# Altium integrated library Renesas Microprocessor SuperH.IntLib: 433 symbols (part 22 of 62)
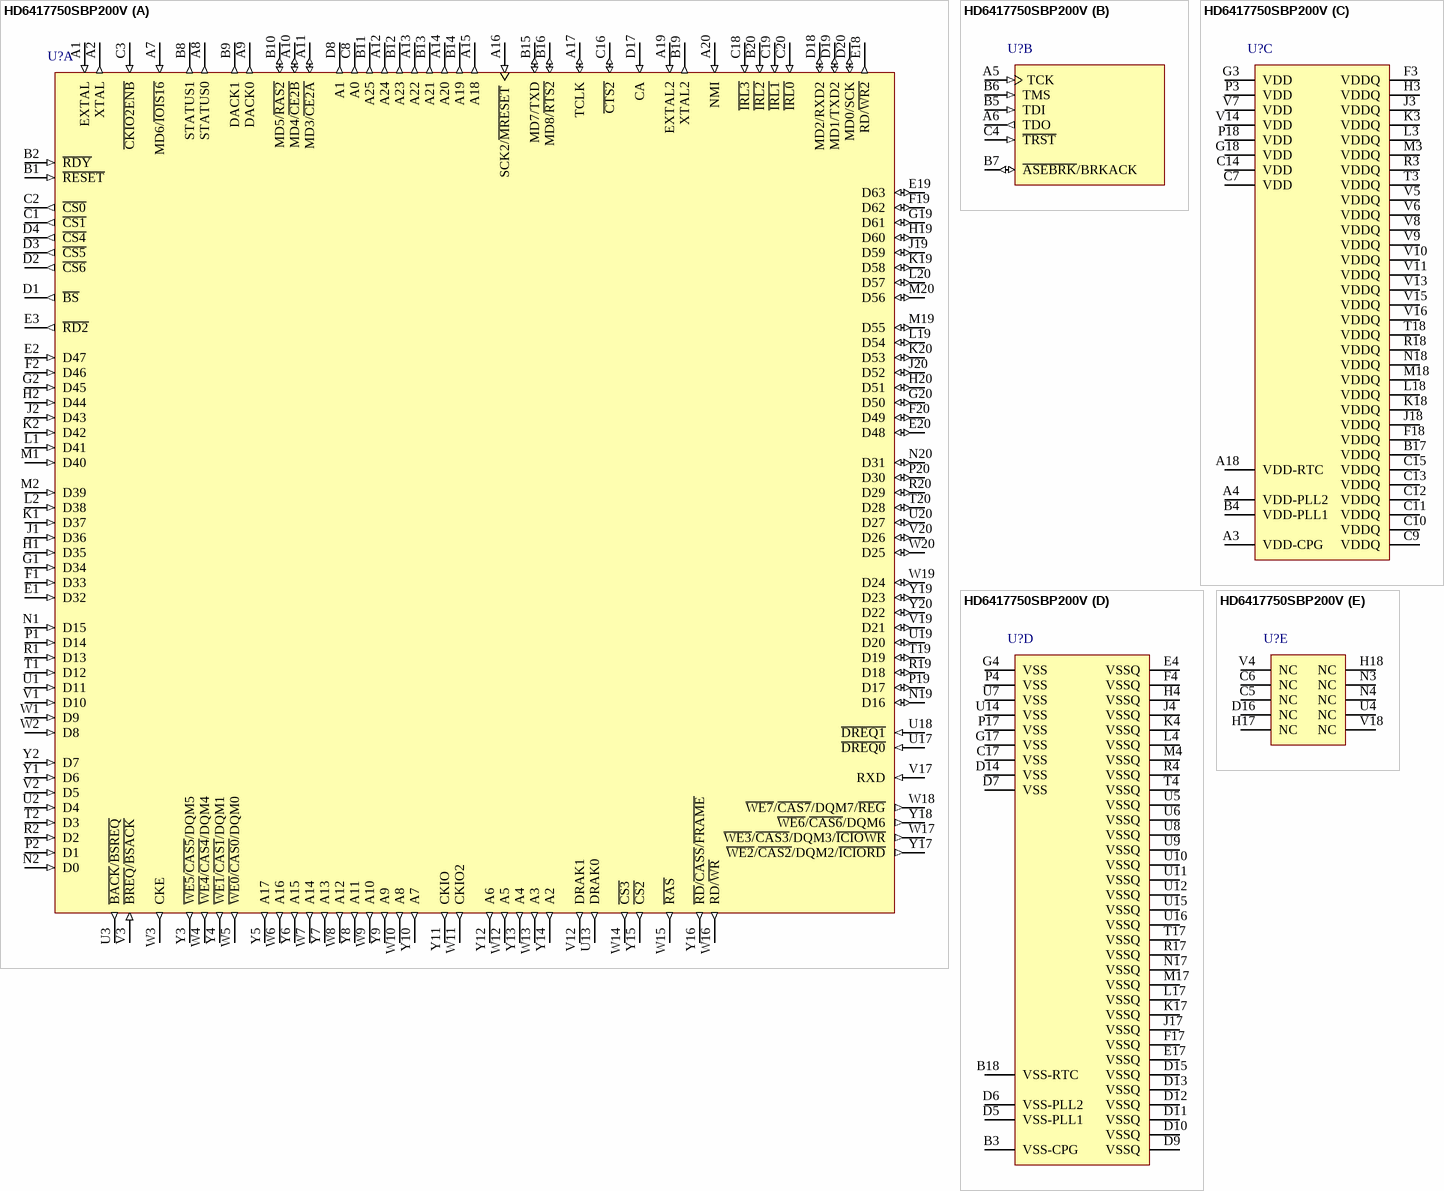
[diagram p295: symbol HD6417750SBP200V]

## HD6417750SBP200V
designator U?
32-Bit RISC Microcomputer, SH7750 Series, SH-4 core, 1.95V 200MHz, 256-pin BGA (Pb-Free), -20 to 75°C; Published: 28-Aug-2009; DatasheetVersion: Rev.7.00, Oct-2008; PackageVersion: Sep-2005; PackageReference: PRBG0256DE-A; Publisher: Altium Limited; PackageDescription: 256-Ball Plastic Ball Grid Array, 27 x 27 mm Body, 1.27 mm Pitch; Supplier 1: Digi-Key; Supplier Part Number 1: HD6417750SBP200V-ND; Code_JEITA: P-BGA256-27x27-1.27; ComponentLink1Description: Manufacturer Link; ComponentLink1URL: http://www.renesas.com/fmwk.jsp?cnt=sh7750s_root.jsp&fp=/products/mpumcu/superh_family/sh7750_series/sh7750s_group/; ComponentLink2Description: Datasheet; ComponentLink2URL: http://documentation.renesas.com/eng/products/mpumcu/rej09b0366_7750hm.pdf; ComponentLink3Description: Packaging Specification; ComponentLink3URL: http://sg.renesas.com/media/products/common_info/package/pdf/ic/code/prbg0256de_a.pdf
footprint PRBG0256DE-A (BGA, 256-Leads, Body 27x27mm, Pitch 1.27mm)
part A pins: A1 EXTAL (in) "External input clock/crystal resonator", A2 XTAL (out) "Crystal resonator", A7 MD6/~{IOIS16} (in) "Mode/IOIS16 (PCMCIA)", A8 STATUS0 (out) "Status", A9 DACK0 (out) "DMAC0 bus acknowledge", A10 MD4/~{CE2B} (io) "Mode/PCMCIA-CE", A11 MD3/~{CE2A} (io) "Mode/PCMCIA-CE", A12 A24 (out) "Address", A13 A22 (out) "Address", A14 A20 (out) "Address", A15 A18 (out) "Address", A16 SCK2/~{MRESET} (in) "SCIF clock/manual reset", A17 TCLK (io) "RTC/TMU clock", A19 EXTAL2 (in) "RTC crystal resonator pin", A20 NMI (in) "Nonmaskable interrupt", B1 ~{RESET} (in) "Reset", B2 ~{RDY} (in) "Bus ready", B8 STATUS1 (out) "Status", B9 DACK1 (out) "DMAC1 bus acknowledge", B10 MD5/~{RAS2} (io) "Mode/RAS (DRAM)", B11 A25 (out) "Address", B12 A23 (out) "Address", B13 A21 (out) "Address", B14 A19 (out) "Address", B15 MD7/TXD (io) "Mode/SCI data output", B16 MD8/~{RTS2} (io) "Mode/SCIF data control (RTS)", B19 XTAL2 (out) "RTC crystal resonator pin", B20 ~{IRL2} (in) "Interrupt 2", C1 ~{CS1} (out) "Chip select 1", C2 ~{CS0} (out) "Chip select 0", C3 ~{CKIO2ENB} (in) "CKIO2, RD2, RD/WR2 enable", C8 A0 (out) "Address", C16 ~{CTS2} (io) "SCIF data control (CTS)", C18 ~{IRL3} (in) "Interrupt 3", C19 ~{IRL1} (in) "Interrupt 1", C20 ~{IRL0} (in) "Interrupt 0", D1 ~{BS} (out) "Bust start", D2 ~{CS6} (out) "Chip select 6", D3 ~{CS5} (out) "Chip select 5", D4 ~{CS4} (out) "Chip select 4", D8 A1 (out) "Address", D17 CA (in), D18 MD2/RXD2 (io) "Mode/SCIF data input", D19 MD1/TXD2 (io) "Mode SCIF data output", D20 MD0/SCK (io) "Mode/SCI clock", E1 D32 (in) "Data/port", E2 D47 (in) "Data/port", E3 ~{RD2} (out) "RD/CASS/FRAME", E18 RD/~{WR2} (out) "RD/WR", E19 D63 (io) "Data", E20 D48 (io) "Data/port", F1 D33 (in) "Data/port", F2 D46 (in) "Data/port", F19 D62 (io) "Data", F20 D49 (io) "Data/port", G1 D34 (in) "Data/port", G2 D45 (in) "Data/port", G19 D61 (io) "Data", G20 D50 (io) "Data/port", H1 D35 (in) "Data/port", H2 D44 (in) "Data/port", H19 D60 (io) "Data", H20 D51 (io) "Data/port", J1 D36 (in) "Data/port", J2 D43 (in) "Data/port", J19 D59 (io) "Data", J20 D52 (io) "Data", K1 D37 (in) "Data/port", K2 D42 (in) "Data/port", K19 D58 (io) "Data", K20 D53 (io) "Data", L1 D41 (in) "Data/port", L2 D38 (in) "Data/port", L19 D54 (io) "Data", L20 D57 (io) "Data", M1 D40 (in) "Data/port", M2 D39 (in) "Data/port", M19 D55 (io) "Data", M20 D56 (io) "Data", N1 D15 (in) "Data", N2 D0 (in) "Data", N19 D16 (io) "Data", N20 D31 (io) "Data", P1 D14 (in) "Data", P2 D1 (in) "Data", P19 D17 (io) "Data", P20 D30 (io) "Data", R1 D13 (in) "Data", R2 D2 (in) "Data", R19 D18 (io) "Data", R20 D29 (io) "Data", T1 D12 (in) "Data", T2 D3 (in) "Data", T19 D19 (io) "Data", T20 D28 (io) "Data", U1 D11 (in) "Data", U2 D4 (in) "Data", U3 ~{BACK}/~{BSREQ} (out) "Bus acknowledge/bus request", U13 DRAK0 (out) "DMAC0 request acknowledge", U17 ~{DREQ0} (in) "Request from DMAC0", U18 ~{DREQ1} (in) "Request from DMAC1", U19 D20 (io) "Data", U20 D27 (io) "Data", V1 D10 (in) "Data", V2 D5 (in) "Data", V3 ~{BREQ}/~{BSACK} (in) "Bus request/bus acknowledge", V12 DRAK1 (out) "DMAC1 request acknowledge", V17 RXD (in) "SCI data input", V19 D21 (io) "Data", V20 D26 (io) "Data", W1 D9 (in) "Data", W2 D8 (in) "Data", W3 CKE (out) "Clock output enable", W4 ~{WE4}/~{CAS4}/DQM4 (out) "D39-D32 select signal", W5 ~{WE0}/~{CAS0}/DQM0 (out) "D7-D0 select signal", W6 A16 (out) "Address", W7 A14 (out) "Address", W8 A12 (out) "Address", W9 A10 (out) "Address", W10 A8 (out) "Address", W11 CKIO2 (out) "CKIO", W12 A5 (out) "Address", W13 A3 (out) "Address", W14 ~{CS3} (out) "Chip select 3", W15 ~{RAS} (out) "RAS", W16 RD/~{WR} (out) "Read/write", W17 ~{WE3}/~{CAS3}/DQM3/~{ICIOWR} (out) "D31-D24 select signal", W18 ~{WE7}/~{CAS7}/DQM7/~{REG} (out) "D63-D56 select signal", W19 D24 (io) "Data", W20 D25 (io) "Data", Y1 D6 (in) "Data", Y2 D7 (in) "Data", Y3 ~{WE5}/~{CAS5}/DQM5 (out) "D47-D40 select signal", Y4 ~{WE1}/~{CAS1}/DQM1 (out) "D15-D8 select signal", Y5 A17 (out) "Address", Y6 A15 (out) "Address", Y7 A13 (out) "Address", Y8 A11 (out) "Address", Y9 A9 (out) "Address", Y10 A7 (out) "Address", Y11 CKIO (out) "Clock output", Y12 A6 (out) "Address", Y13 A4 (out) "Address", Y14 A2 (out) "Address", Y15 ~{CS2} (out) "Chip select 2", Y16 ~{RD}/~{CASS}/~{FRAME} (out) "Read/CAS/FRAME", Y17 ~{WE2}/~{CAS2}/DQM2/~{ICIORD} (out) "D23-D16 select signal", Y18 ~{WE6}/~{CAS6}/DQM6 (out) "D55-D48 select signal", Y19 D23 (io) "Data", Y20 D22 (io) "Data"
part B pins: A5 TCK (in) "Clock (H-UDI)", A6 TDO (out) "Data out (H-UDI)", B5 TDI (in) "Data in (H-UDI)", B6 TMS (in) "Mode (H-UDI)", B7 ~{ASEBRK}/BRKACK (io) "Pin break/acknowledge (H-UDI)", C4 ~{TRST} (in) "Reset (H-UDI)"
part C pins: A3 VDD-CPG (power) "CPG VDD (3.3V)", A4 VDD-PLL2 (power) "PLL2 VDD (3.3V)", A18 VDD-RTC (power) "RTC VDD (3.3V)", B4 VDD-PLL1 (power) "PLL1 VDD (3.3V)", B17 VDDQ (power) "IO VDD (3.3V)", C7 VDD (power) "Internal VDD", C9 VDDQ (power) "IO VDD (3.3V)", C10 VDDQ (power) "IO VDD (3.3V)", C11 VDDQ (power) "IO VDD (3.3V)", C12 VDDQ (power) "IO VDD (3.3V)", C13 VDDQ (power) "IO VDD (3.3V)", C14 VDD (power) "Internal VDD", C15 VDDQ (power) "IO VDD (3.3V)", F3 VDDQ (power) "IO VDD (3.3V)", F18 VDDQ (power) "IO VDD (3.3V)", G3 VDD (power) "Internal VDD (1.8V)", G18 VDD (power) "Internal VDD", H3 VDDQ (power) "IO VDD (3.3V)", J3 VDDQ (power) "IO VDD (3.3V)", J18 VDDQ (power) "IO VDD (3.3V)", K3 VDDQ (power) "IO VDD (3.3V)", K18 VDDQ (power) "IO VDD (3.3V)", L3 VDDQ (power) "IO VDD (3.3V)", L18 VDDQ (power) "IO VDD (3.3V)", M3 VDDQ (power) "IO VDD (3.3V)", M18 VDDQ (power) "IO VDD (3.3V)", N18 VDDQ (power) "IO VDD (3.3V)", P3 VDD (power) "Internal VDD", P18 VDD (power) "Internal VDD", R3 VDDQ (power) "IO VDD (3.3V)", R18 VDDQ (power) "IO VDD (3.3V)", T3 VDDQ (power) "IO VDD (3.3V)", T18 VDDQ (power) "IO VDD (3.3V)", V5 VDDQ (power) "IO VDD (3.3V)", V6 VDDQ (power) "IO VDD (3.3V)", V7 VDD (power) "Internal VDD", V8 VDDQ (power) "IO VDD (3.3V)", V9 VDDQ (power) "IO VDD (3.3V)", V10 VDDQ (power) "IO VDD (3.3V)", V11 VDDQ (power) "IO VDD (3.3V)", V13 VDDQ (power) "IO VDD (3.3V)", V14 VDD (power) "Internal VDD", V15 VDDQ (power) "IO VDD (3.3V)", V16 VDDQ (power) "IO VDD (3.3V)"
part D pins: B3 VSS-CPG (power) "CPG GND (0V)", B18 VSS-RTC (power) "RTC GND (0V)", C17 VSS (power) "Internal GND (0V)", D5 VSS-PLL1 (power) "PLL1 GND (0V)", D6 VSS-PLL2 (power) "PLL2 GND (0V)", D7 VSS (power) "Internal GND (0V)", D9 VSSQ (power) "IO GND (0V)", D10 VSSQ (power) "IO GND (0V)", D11 VSSQ (power) "IO GND (0V)", D12 VSSQ (power) "IO GND (0V)", D13 VSSQ (power) "IO GND (0V)", D14 VSS (power) "Internal GND (0V)", D15 VSSQ (power) "IO GND (0V)", E4 VSSQ (power) "IO GND (0V)", E17 VSSQ (power) "IO GND (0V)", F4 VSSQ (power) "IO GND (0V)", F17 VSSQ (power) "IO GND (0V)", G4 VSS (power) "Internal GND (0V)", G17 VSS (power) "Internal GND (0V)", H4 VSSQ (power) "IO GND (0V)", J4 VSSQ (power) "IO GND (0V)", J17 VSSQ (power) "IO GND (0V)", K4 VSSQ (power) "IO GND (0V)", K17 VSSQ (power) "IO GND (0V)", L4 VSSQ (power) "IO GND (0V)", L17 VSSQ (power) "IO GND (0V)", M4 VSSQ (power) "IO GND (0V)", M17 VSSQ (power) "IO GND (0V)", N17 VSSQ (power) "IO GND (0V)", P4 VSS (power) "Internal GND (0V)", P17 VSS (power) "Internal GND (0V)", R4 VSSQ (power) "IO GND (0V)", R17 VSSQ (power) "IO GND (0V)", T4 VSSQ (power) "IO GND (0V)", T17 VSSQ (power) "IO GND (0V)", U5 VSSQ (power) "IO GND (0V)", U6 VSSQ (power) "IO GND (0V)", U7 VSS (power) "Internal GND (0V)", U8 VSSQ (power) "IO GND (0V)", U9 VSSQ (power) "IO GND (0V)", U10 VSSQ (power) "IO GND (0V)", U11 VSSQ (power) "IO GND (0V)", U12 VSSQ (power) "IO GND (0V)", U14 VSS (power) "Internal GND (0V)", U15 VSSQ (power) "IO GND (0V)", U16 VSSQ (power) "IO GND (0V)"
part E pins: C5 NC "Leave open, do not connect", C6 NC "Leave open, do not connect", D16 NC "Leave open, do not connect", H17 NC "Leave open, do not connect", H18 NC "Leave open, do not connect", N3 NC "Leave open, do not connect", N4 NC "Leave open, do not connect", U4 NC "Leave open, do not connect", V4 NC "Leave open, do not connect", V18 NC "Leave open, do not connect"

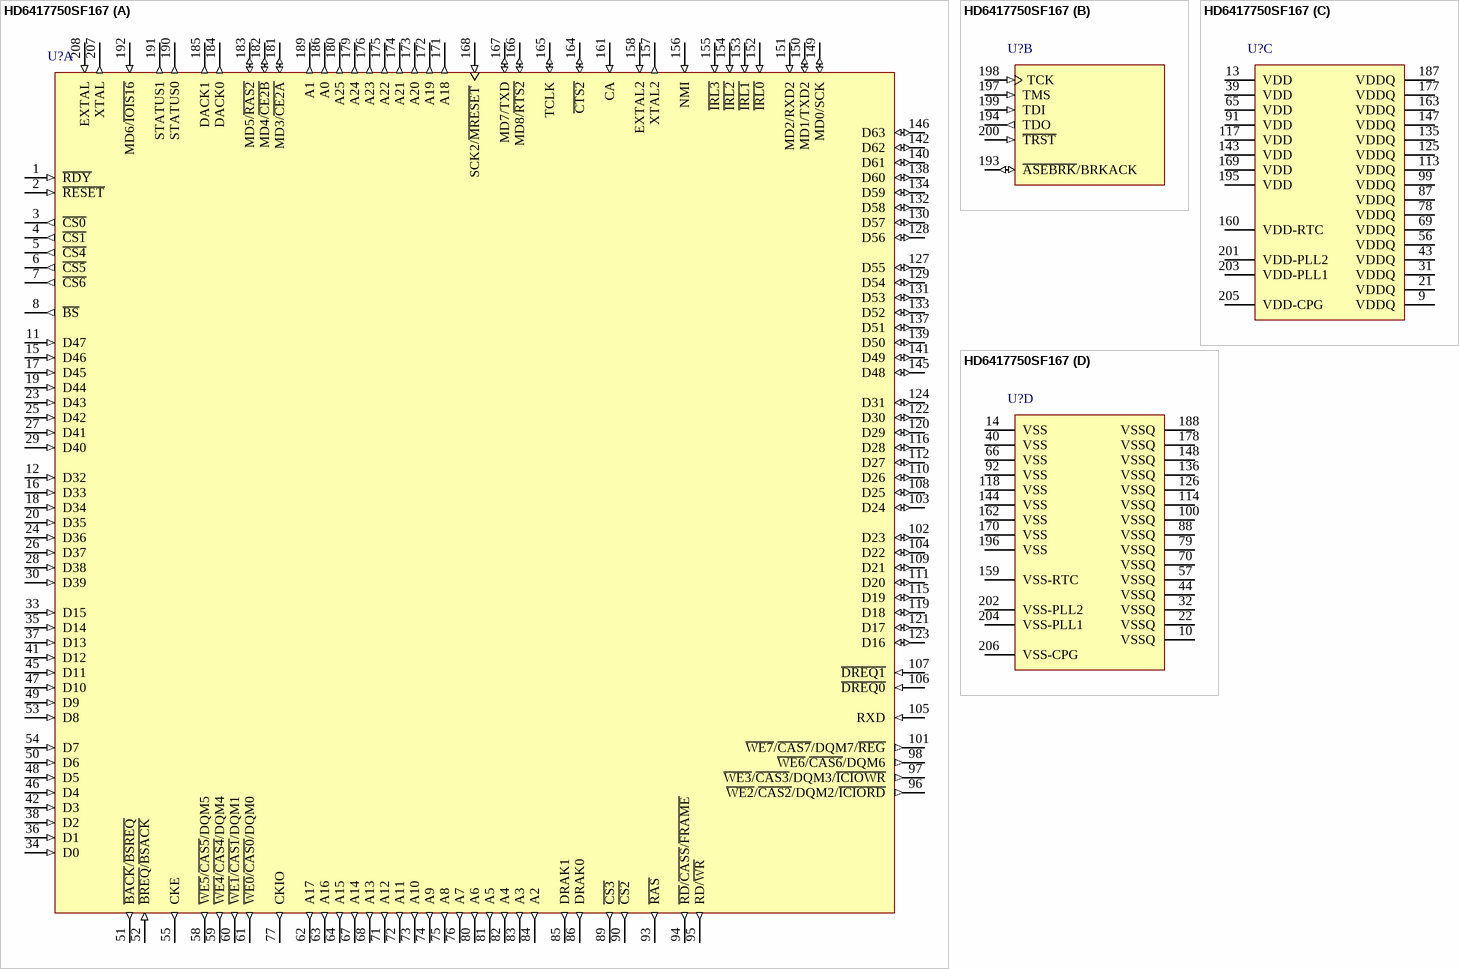
[diagram p78: symbol HD6417750SF167]

## HD6417750SF167
designator U?
32-Bit RISC Microcomputer, SH7750 Series, SH-4 core, 1.8V 167MHz, 208-pin QFP, -20 to 75°C; Published: 28-Aug-2009; DatasheetVersion: Rev.7.00, Oct-2008; PackageVersion: Sep-2005; PackageReference: PRQP0208KE-B; Publisher: Altium Limited; PackageDescription: 208-Pin Plastic Quad Flat Pack, 28 x 28 x 3.2 mm Body, 0.5 mm Pitch; Supplier 1: Digi-Key; Supplier Part Number 1: HD6417750SF167-ND; Code_JEITA: P-HQFP208-28x28-0.50; ComponentLink1Description: Manufacturer Link; ComponentLink1URL: http://www.renesas.com/fmwk.jsp?cnt=sh7750s_root.jsp&fp=/products/mpumcu/superh_family/sh7750_series/sh7750s_group/; ComponentLink2Description: Datasheet; ComponentLink2URL: http://documentation.renesas.com/eng/products/mpumcu/rej09b0366_7750hm.pdf; ComponentLink3Description: Packaging Specification; ComponentLink3URL: http://sg.renesas.com/media/products/common_info/package/pdf/ic/code/prqp0208ke_b.pdf
footprint PRQP0208KE-B_N (Shrink QFP, 208-Leads, Body 28x28mm, Pitch 0.5mm, IPC Medium Density)
footprint PRQP0208KE-B_L (Shrink QFP, 208-Leads, Body 28x28mm, Pitch 0.5mm, IPC High Density)
footprint PRQP0208KE-B_M (Shrink QFP, 208-Leads, Body 28x28mm, Pitch 0.5mm, IPC Low Density)
part A pins: 1 ~{RDY} (in) "Bus ready", 2 ~{RESET} (in) "Reset", 3 ~{CS0} (out) "Chip select 0", 4 ~{CS1} (out) "Chip select 1", 5 ~{CS4} (out) "Chip select 4", 6 ~{CS5} (out) "Chip select 5", 7 ~{CS6} (out) "Chip select 6", 8 ~{BS} (out) "Bust start", 11 D47 (in) "Data/port", 12 D32 (in) "Data/port", 15 D46 (in) "Data/port", 16 D33 (in) "Data/port", 17 D45 (in) "Data/port", 18 D34 (in) "Data/port", 19 D44 (in) "Data/port", 20 D35 (in) "Data/port", 23 D43 (in) "Data/port", 24 D36 (in) "Data/port", 25 D42 (in) "Data/port", 26 D37 (in) "Data/port", 27 D41 (in) "Data/port", 28 D38 (in) "Data/port", 29 D40 (in) "Data/port", 30 D39 (in) "Data/port", 33 D15 (in) "Data", 34 D0 (in) "Data", 35 D14 (in) "Data", 36 D1 (in) "Data", 37 D13 (in) "Data", 38 D2 (in) "Data", 41 D12 (in) "Data", 42 D3 (in) "Data", 45 D11 (in) "Data", 46 D4 (in) "Data", 47 D10 (in) "Data", 48 D5 (in) "Data", 49 D9 (in) "Data", 50 D6 (in) "Data", 51 ~{BACK}/~{BSREQ} (out) "Bus acknowledge/bus request", 52 ~{BREQ}/~{BSACK} (in) "Bus request/bus acknowledge", 53 D8 (in) "Data", 54 D7 (in) "Data", 55 CKE (out) "Clock output enable", 58 ~{WE5}/~{CAS5}/DQM5 (out) "D47-D40 select signal", 59 ~{WE4}/~{CAS4}/DQM4 (out) "D39-D32 select signal", 60 ~{WE1}/~{CAS1}/DQM1 (out) "D15-D8 select signal", 61 ~{WE0}/~{CAS0}/DQM0 (out) "D7-D0 select signal", 62 A17 (out) "Address", 63 A16 (out) "Address", 64 A15 (out) "Address", 67 A14 (out) "Address", 68 A13 (out) "Address", 71 A12 (out) "Address", 72 A11 (out) "Address", 73 A10 (out) "Address", 74 A9 (out) "Address", 75 A8 (out) "Address", 76 A7 (out) "Address", 77 CKIO (out) "Clock output", 80 A6 (out) "Address", 81 A5 (out) "Address", 82 A4 (out) "Address", 83 A3 (out) "Address", 84 A2 (out) "Address", 85 DRAK1 (out) "DMAC1 request acknowledge", 86 DRAK0 (out) "DMAC0 request acknowledge", 89 ~{CS3} (out) "Chip select 3", 90 ~{CS2} (out) "Chip select 2", 93 ~{RAS} (out) "RAS", 94 ~{RD}/~{CASS}/~{FRAME} (out) "Read/CAS/FRAME", 95 RD/~{WR} (out) "Read/write", 96 ~{WE2}/~{CAS2}/DQM2/~{ICIORD} (out) "D23-D16 select signal", 97 ~{WE3}/~{CAS3}/DQM3/~{ICIOWR} (out) "D31-D24 select signal", 98 ~{WE6}/~{CAS6}/DQM6 (out) "D55-D48 select signal", 101 ~{WE7}/~{CAS7}/DQM7/~{REG} (out) "D63-D56 select signal", 102 D23 (io) "Data", 103 D24 (io) "Data", 104 D22 (io) "Data", 105 RXD (in) "SCI Data input", 106 ~{DREQ0} (in) "Request from DMAC0", 107 ~{DREQ1} (in) "Request from DMAC1", 108 D25 (io) "Data", 109 D21 (io) "Data", 110 D26 (io) "Data", 111 D20 (io) "Data", 112 D27 (io) "Data", 115 D19 (io) "Data", 116 D28 (io) "Data", 119 D18 (io) "Data", 120 D29 (io) "Data", 121 D17 (io) "Data", 122 D30 (io) "Data", 123 D16 (io) "Data", 124 D31 (io) "Data", 127 D55 (io) "Data", 128 D56 (io) "Data", 129 D54 (io) "Data", 130 D57 (io) "Data", 131 D53 (io) "Data", 132 D58 (io) "Data", 133 D52 (io) "Data", 134 D59 (io) "Data", 137 D51 (io) "Data/port", 138 D60 (io) "Data", 139 D50 (io) "Data/port", 140 D61 (io) "Data", 141 D49 (io) "Data/port", 142 D62 (io) "Data", 145 D48 (io) "Data/port", 146 D63 (io) "Data", 149 MD0/SCK (io) "Mode/SCI clock", 150 MD1/TXD2 (io) "Mode SCIF data output", 151 MD2/RXD2 (in) "Mode/SCIF data input", 152 ~{IRL0} (in) "Interrupt 0", 153 ~{IRL1} (in) "Interrupt 1", 154 ~{IRL2} (in) "Interrupt 2", 155 ~{IRL3} (in) "Interrupt 3", 156 NMI (in) "Nonmaskable interrupt", 157 XTAL2 (out) "RTC crystal resonator pin", 158 EXTAL2 (in) "RTC crystal resonator pin", 161 CA (in), 164 ~{CTS2} (io) "SCIF data control (CTS)", 165 TCLK (io) "RTC/TMU clock", 166 MD8/~{RTS2} (io) "Mode/SCIF data control (RTS)", 167 MD7/TXD (io) "Mode/SCI data output", 168 SCK2/~{MRESET} (in) "SCIF clock/manual reset", 171 A18 (out) "Address", 172 A19 (out) "Address", 173 A20 (out) "Address", 174 A21 (out) "Address", 175 A22 (out) "Address", 176 A23 (out) "Address", 179 A24 (out) "Address", 180 A25 (out) "Address", 181 MD3/~{CE2A} (io) "Mode/PCMCIA-CE", 182 MD4/~{CE2B} (io) "Mode/PCMCIA-CE", 183 MD5/~{RAS2} (io) "Mode/RAS (DRAM)", 184 DACK0 (out) "DMAC0 bus acknowledge", 185 DACK1 (out) "DMAC1 bus acknowledge", 186 A0 (out) "Address", 189 A1 (out) "Address", 190 STATUS0 (out) "Status", 191 STATUS1 (out) "Status", 192 MD6/~{IOIS16} (in) "Mode/IOIS16 (PCMCIA)", 207 XTAL (out) "Crystal resonator", 208 EXTAL (in) "External input clock/crystal resonator"
part B pins: 193 ~{ASEBRK}/BRKACK (io) "Pin break/acknowledge (H-UDI)", 194 TDO (out) "Data out (H-UDI)", 197 TMS (in) "Mode (H-UDI)", 198 TCK (in) "Clock (H-UDI)", 199 TDI (in) "Data in (H-UDI)", 200 ~{TRST} (in) "Reset (H-UDI)"
part C pins: 9 VDDQ (power) "IO VDD (3.3V)", 13 VDD (power) "Internal VDD", 21 VDDQ (power) "IO VDD (3.3V)", 31 VDDQ (power) "IO VDD (3.3V)", 39 VDD (power) "Internal VDD (1.8V)", 43 VDDQ (power) "IO VDD (3.3V)", 56 VDDQ (power) "IO VDD (3.3V)", 65 VDD (power) "Internal VDD", 69 VDDQ (power) "IO VDD (3.3V)", 78 VDDQ (power) "IO VDD (3.3V)", 87 VDDQ (power) "IO VDD (3.3V)", 91 VDD (power) "Internal VDD", 99 VDDQ (power) "IO VDD (3.3V)", 113 VDDQ (power) "IO VDD (3.3V)", 117 VDD (power) "Internal VDD", 125 VDDQ (power) "IO VDD (3.3V)", 135 VDDQ (power) "IO VDD (3.3V)", 143 VDD (power) "Internal VDD", 147 VDDQ (power) "IO VDD (3.3V)", 160 VDD-RTC (power) "RTC VDD (3.3V)", 163 VDDQ (power) "IO VDD (3.3V)", 169 VDD (power) "Internal VDD", 177 VDDQ (power) "IO VDD (3.3V)", 187 VDDQ (power) "IO VDD (3.3V)", 195 VDD (power) "Internal VDD", 201 VDD-PLL2 (power) "PLL2 VDD (3.3V)", 203 VDD-PLL1 (power) "PLL1 VDD (3.3V)", 205 VDD-CPG (power) "CPG VDD (3.3V)"
part D pins: 10 VSSQ (power) "IO GND (0V)", 14 VSS (power) "Internal GND (0V)", 22 VSSQ (power) "IO GND (0V)", 32 VSSQ (power) "IO GND (0V)", 40 VSS (power) "Internal GND (0V)", 44 VSSQ (power) "IO GND (0V)", 57 VSSQ (power) "IO GND (0V)", 66 VSS (power) "Internal GND (0V)", 70 VSSQ (power) "IO GND (0V)", 79 VSSQ (power) "IO GND (0V)", 88 VSSQ (power) "IO GND (0V)", 92 VSS (power) "Internal GND (0V)", 100 VSSQ (power) "IO GND (0V)", 114 VSSQ (power) "IO GND (0V)", 118 VSS (power) "Internal GND (0V)", 126 VSSQ (power) "IO GND (0V)", 136 VSSQ (power) "IO GND (0V)", 144 VSS (power) "Internal GND (0V)", 148 VSSQ (power) "IO GND (0V)", 159 VSS-RTC (power) "RTC GND (0V)", 162 VSS (power) "Internal GND (0V)", 170 VSS (power) "Internal GND (0V)", 178 VSSQ (power) "IO GND (0V)", 188 VSSQ (power) "IO GND (0V)", 196 VSS (power) "Internal GND (0V)", 202 VSS-PLL2 (power) "PLL2 GND (0V)", 204 VSS-PLL1 (power) "PLL1 GND (0V)", 206 VSS-CPG (power) "CPG GND (0V)"

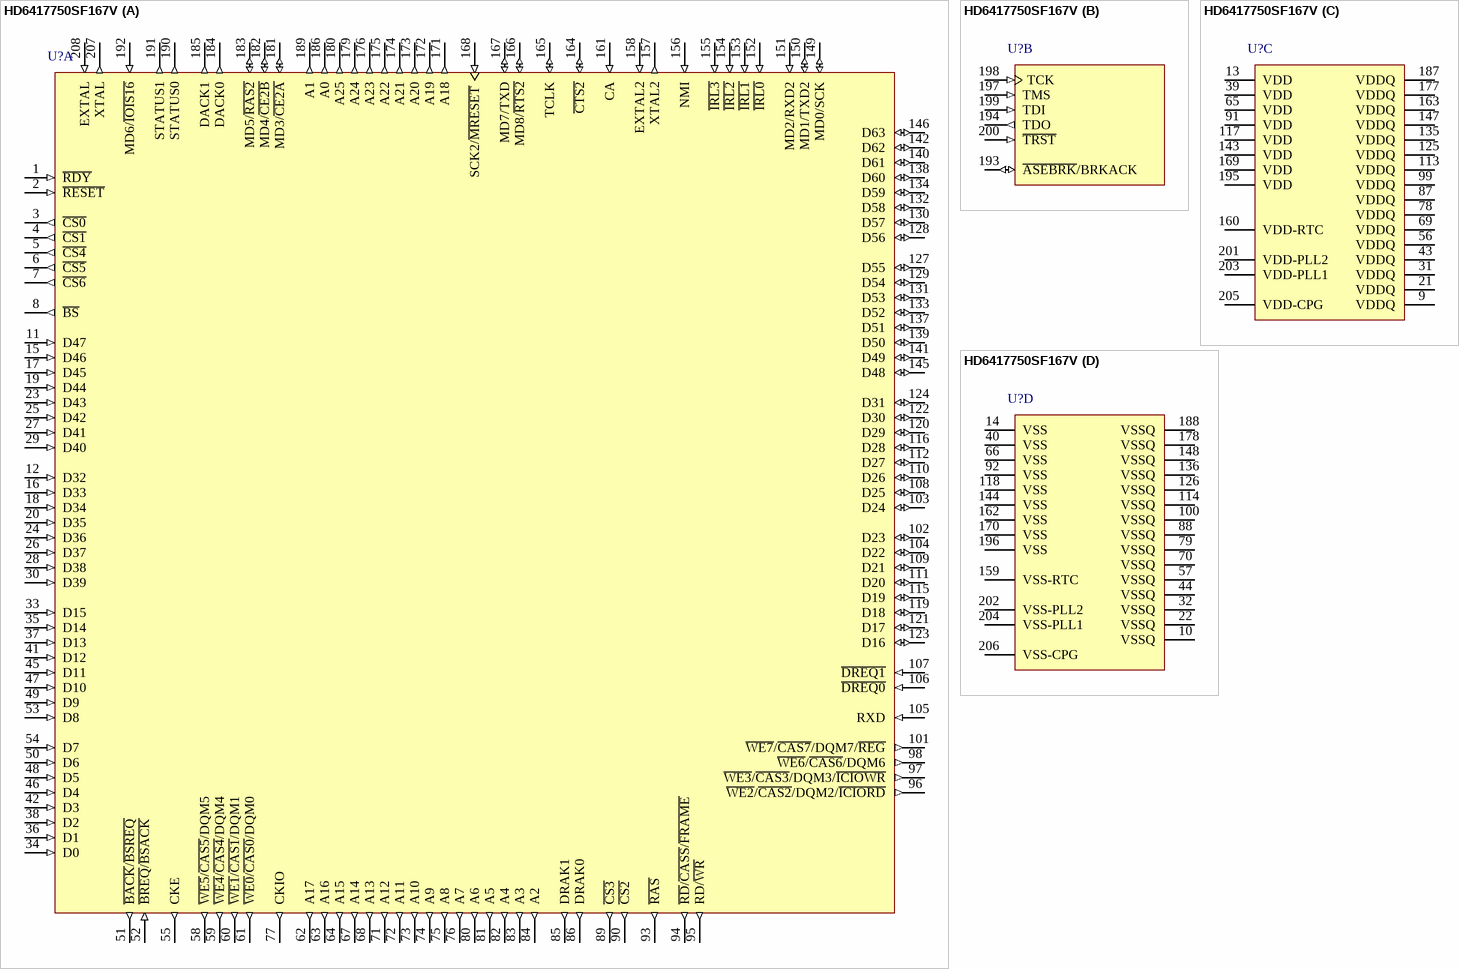
[diagram p79: symbol HD6417750SF167V]

## HD6417750SF167V
designator U?
32-Bit RISC Microcomputer, SH7750 Series, SH-4 core, 1.8V 167MHz, 208-pin QFP (Pb-Free), -20 to 75°C; Published: 28-Aug-2009; DatasheetVersion: Rev.7.00, Oct-2008; PackageVersion: Sep-2005; PackageReference: PRQP0208KE-B; Publisher: Altium Limited; PackageDescription: 208-Pin Plastic Quad Flat Pack, 28 x 28 x 3.2 mm Body, 0.5 mm Pitch; Supplier 1: Digi-Key; Supplier Part Number 1: HD6417750SF167V-ND; Code_JEITA: P-HQFP208-28x28-0.50; ComponentLink1Description: Manufacturer Link; ComponentLink1URL: http://www.renesas.com/fmwk.jsp?cnt=sh7750s_root.jsp&fp=/products/mpumcu/superh_family/sh7750_series/sh7750s_group/; ComponentLink2Description: Datasheet; ComponentLink2URL: http://documentation.renesas.com/eng/products/mpumcu/rej09b0366_7750hm.pdf; ComponentLink3Description: Packaging Specification; ComponentLink3URL: http://sg.renesas.com/media/products/common_info/package/pdf/ic/code/prqp0208ke_b.pdf
footprint PRQP0208KE-B_N (Shrink QFP, 208-Leads, Body 28x28mm, Pitch 0.5mm, IPC Medium Density)
footprint PRQP0208KE-B_L (Shrink QFP, 208-Leads, Body 28x28mm, Pitch 0.5mm, IPC High Density)
footprint PRQP0208KE-B_M (Shrink QFP, 208-Leads, Body 28x28mm, Pitch 0.5mm, IPC Low Density)
part A pins: 1 ~{RDY} (in) "Bus ready", 2 ~{RESET} (in) "Reset", 3 ~{CS0} (out) "Chip select 0", 4 ~{CS1} (out) "Chip select 1", 5 ~{CS4} (out) "Chip select 4", 6 ~{CS5} (out) "Chip select 5", 7 ~{CS6} (out) "Chip select 6", 8 ~{BS} (out) "Bust start", 11 D47 (in) "Data/port", 12 D32 (in) "Data/port", 15 D46 (in) "Data/port", 16 D33 (in) "Data/port", 17 D45 (in) "Data/port", 18 D34 (in) "Data/port", 19 D44 (in) "Data/port", 20 D35 (in) "Data/port", 23 D43 (in) "Data/port", 24 D36 (in) "Data/port", 25 D42 (in) "Data/port", 26 D37 (in) "Data/port", 27 D41 (in) "Data/port", 28 D38 (in) "Data/port", 29 D40 (in) "Data/port", 30 D39 (in) "Data/port", 33 D15 (in) "Data", 34 D0 (in) "Data", 35 D14 (in) "Data", 36 D1 (in) "Data", 37 D13 (in) "Data", 38 D2 (in) "Data", 41 D12 (in) "Data", 42 D3 (in) "Data", 45 D11 (in) "Data", 46 D4 (in) "Data", 47 D10 (in) "Data", 48 D5 (in) "Data", 49 D9 (in) "Data", 50 D6 (in) "Data", 51 ~{BACK}/~{BSREQ} (out) "Bus acknowledge/bus request", 52 ~{BREQ}/~{BSACK} (in) "Bus request/bus acknowledge", 53 D8 (in) "Data", 54 D7 (in) "Data", 55 CKE (out) "Clock output enable", 58 ~{WE5}/~{CAS5}/DQM5 (out) "D47-D40 select signal", 59 ~{WE4}/~{CAS4}/DQM4 (out) "D39-D32 select signal", 60 ~{WE1}/~{CAS1}/DQM1 (out) "D15-D8 select signal", 61 ~{WE0}/~{CAS0}/DQM0 (out) "D7-D0 select signal", 62 A17 (out) "Address", 63 A16 (out) "Address", 64 A15 (out) "Address", 67 A14 (out) "Address", 68 A13 (out) "Address", 71 A12 (out) "Address", 72 A11 (out) "Address", 73 A10 (out) "Address", 74 A9 (out) "Address", 75 A8 (out) "Address", 76 A7 (out) "Address", 77 CKIO (out) "Clock output", 80 A6 (out) "Address", 81 A5 (out) "Address", 82 A4 (out) "Address", 83 A3 (out) "Address", 84 A2 (out) "Address", 85 DRAK1 (out) "DMAC1 request acknowledge", 86 DRAK0 (out) "DMAC0 request acknowledge", 89 ~{CS3} (out) "Chip select 3", 90 ~{CS2} (out) "Chip select 2", 93 ~{RAS} (out) "RAS", 94 ~{RD}/~{CASS}/~{FRAME} (out) "Read/CAS/FRAME", 95 RD/~{WR} (out) "Read/write", 96 ~{WE2}/~{CAS2}/DQM2/~{ICIORD} (out) "D23-D16 select signal", 97 ~{WE3}/~{CAS3}/DQM3/~{ICIOWR} (out) "D31-D24 select signal", 98 ~{WE6}/~{CAS6}/DQM6 (out) "D55-D48 select signal", 101 ~{WE7}/~{CAS7}/DQM7/~{REG} (out) "D63-D56 select signal", 102 D23 (io) "Data", 103 D24 (io) "Data", 104 D22 (io) "Data", 105 RXD (in) "SCI Data input", 106 ~{DREQ0} (in) "Request from DMAC0", 107 ~{DREQ1} (in) "Request from DMAC1", 108 D25 (io) "Data", 109 D21 (io) "Data", 110 D26 (io) "Data", 111 D20 (io) "Data", 112 D27 (io) "Data", 115 D19 (io) "Data", 116 D28 (io) "Data", 119 D18 (io) "Data", 120 D29 (io) "Data", 121 D17 (io) "Data", 122 D30 (io) "Data", 123 D16 (io) "Data", 124 D31 (io) "Data", 127 D55 (io) "Data", 128 D56 (io) "Data", 129 D54 (io) "Data", 130 D57 (io) "Data", 131 D53 (io) "Data", 132 D58 (io) "Data", 133 D52 (io) "Data", 134 D59 (io) "Data", 137 D51 (io) "Data/port", 138 D60 (io) "Data", 139 D50 (io) "Data/port", 140 D61 (io) "Data", 141 D49 (io) "Data/port", 142 D62 (io) "Data", 145 D48 (io) "Data/port", 146 D63 (io) "Data", 149 MD0/SCK (io) "Mode/SCI clock", 150 MD1/TXD2 (io) "Mode SCIF data output", 151 MD2/RXD2 (in) "Mode/SCIF data input", 152 ~{IRL0} (in) "Interrupt 0", 153 ~{IRL1} (in) "Interrupt 1", 154 ~{IRL2} (in) "Interrupt 2", 155 ~{IRL3} (in) "Interrupt 3", 156 NMI (in) "Nonmaskable interrupt", 157 XTAL2 (out) "RTC crystal resonator pin", 158 EXTAL2 (in) "RTC crystal resonator pin", 161 CA (in), 164 ~{CTS2} (io) "SCIF data control (CTS)", 165 TCLK (io) "RTC/TMU clock", 166 MD8/~{RTS2} (io) "Mode/SCIF data control (RTS)", 167 MD7/TXD (io) "Mode/SCI data output", 168 SCK2/~{MRESET} (in) "SCIF clock/manual reset", 171 A18 (out) "Address", 172 A19 (out) "Address", 173 A20 (out) "Address", 174 A21 (out) "Address", 175 A22 (out) "Address", 176 A23 (out) "Address", 179 A24 (out) "Address", 180 A25 (out) "Address", 181 MD3/~{CE2A} (io) "Mode/PCMCIA-CE", 182 MD4/~{CE2B} (io) "Mode/PCMCIA-CE", 183 MD5/~{RAS2} (io) "Mode/RAS (DRAM)", 184 DACK0 (out) "DMAC0 bus acknowledge", 185 DACK1 (out) "DMAC1 bus acknowledge", 186 A0 (out) "Address", 189 A1 (out) "Address", 190 STATUS0 (out) "Status", 191 STATUS1 (out) "Status", 192 MD6/~{IOIS16} (in) "Mode/IOIS16 (PCMCIA)", 207 XTAL (out) "Crystal resonator", 208 EXTAL (in) "External input clock/crystal resonator"
part B pins: 193 ~{ASEBRK}/BRKACK (io) "Pin break/acknowledge (H-UDI)", 194 TDO (out) "Data out (H-UDI)", 197 TMS (in) "Mode (H-UDI)", 198 TCK (in) "Clock (H-UDI)", 199 TDI (in) "Data in (H-UDI)", 200 ~{TRST} (in) "Reset (H-UDI)"
part C pins: 9 VDDQ (power) "IO VDD (3.3V)", 13 VDD (power) "Internal VDD", 21 VDDQ (power) "IO VDD (3.3V)", 31 VDDQ (power) "IO VDD (3.3V)", 39 VDD (power) "Internal VDD (1.8V)", 43 VDDQ (power) "IO VDD (3.3V)", 56 VDDQ (power) "IO VDD (3.3V)", 65 VDD (power) "Internal VDD", 69 VDDQ (power) "IO VDD (3.3V)", 78 VDDQ (power) "IO VDD (3.3V)", 87 VDDQ (power) "IO VDD (3.3V)", 91 VDD (power) "Internal VDD", 99 VDDQ (power) "IO VDD (3.3V)", 113 VDDQ (power) "IO VDD (3.3V)", 117 VDD (power) "Internal VDD", 125 VDDQ (power) "IO VDD (3.3V)", 135 VDDQ (power) "IO VDD (3.3V)", 143 VDD (power) "Internal VDD", 147 VDDQ (power) "IO VDD (3.3V)", 160 VDD-RTC (power) "RTC VDD (3.3V)", 163 VDDQ (power) "IO VDD (3.3V)", 169 VDD (power) "Internal VDD", 177 VDDQ (power) "IO VDD (3.3V)", 187 VDDQ (power) "IO VDD (3.3V)", 195 VDD (power) "Internal VDD", 201 VDD-PLL2 (power) "PLL2 VDD (3.3V)", 203 VDD-PLL1 (power) "PLL1 VDD (3.3V)", 205 VDD-CPG (power) "CPG VDD (3.3V)"
part D pins: 10 VSSQ (power) "IO GND (0V)", 14 VSS (power) "Internal GND (0V)", 22 VSSQ (power) "IO GND (0V)", 32 VSSQ (power) "IO GND (0V)", 40 VSS (power) "Internal GND (0V)", 44 VSSQ (power) "IO GND (0V)", 57 VSSQ (power) "IO GND (0V)", 66 VSS (power) "Internal GND (0V)", 70 VSSQ (power) "IO GND (0V)", 79 VSSQ (power) "IO GND (0V)", 88 VSSQ (power) "IO GND (0V)", 92 VSS (power) "Internal GND (0V)", 100 VSSQ (power) "IO GND (0V)", 114 VSSQ (power) "IO GND (0V)", 118 VSS (power) "Internal GND (0V)", 126 VSSQ (power) "IO GND (0V)", 136 VSSQ (power) "IO GND (0V)", 144 VSS (power) "Internal GND (0V)", 148 VSSQ (power) "IO GND (0V)", 159 VSS-RTC (power) "RTC GND (0V)", 162 VSS (power) "Internal GND (0V)", 170 VSS (power) "Internal GND (0V)", 178 VSSQ (power) "IO GND (0V)", 188 VSSQ (power) "IO GND (0V)", 196 VSS (power) "Internal GND (0V)", 202 VSS-PLL2 (power) "PLL2 GND (0V)", 204 VSS-PLL1 (power) "PLL1 GND (0V)", 206 VSS-CPG (power) "CPG GND (0V)"

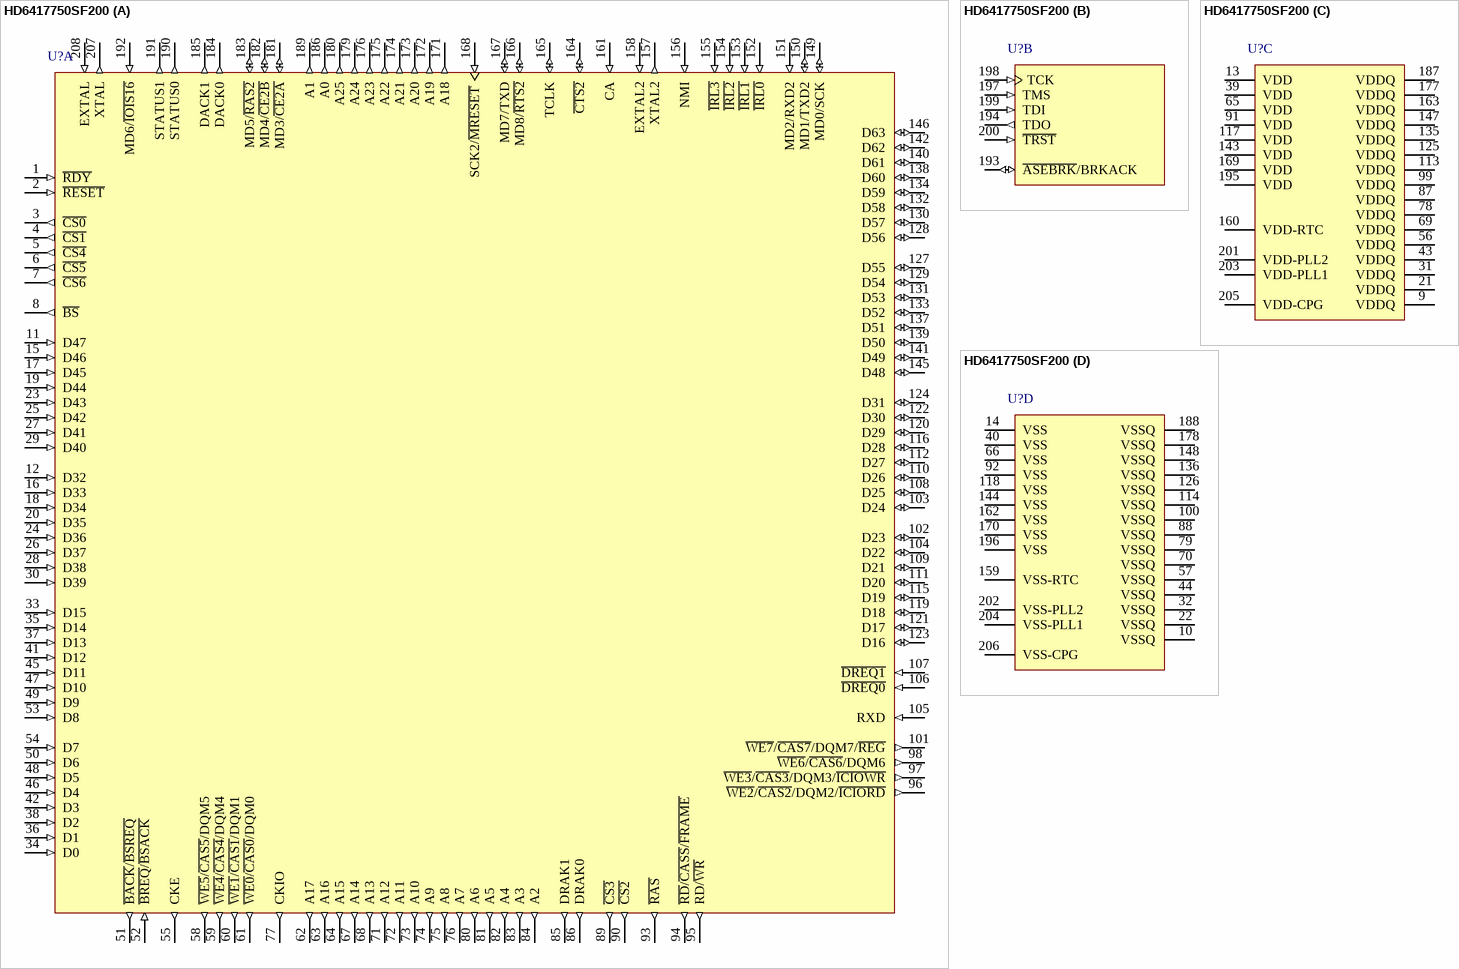
[diagram p80: symbol HD6417750SF200]

## HD6417750SF200
designator U?
32-Bit RISC Microcomputer, SH7750 Series, SH-4 core, 1.95V 200MHz, 208-pin QFP, -20 to 75°C; Published: 28-Aug-2009; DatasheetVersion: Rev.7.00, Oct-2008; PackageVersion: Sep-2005; PackageReference: PRQP0208KE-B; Publisher: Altium Limited; PackageDescription: 208-Pin Plastic Quad Flat Pack, 28 x 28 x 3.2 mm Body, 0.5 mm Pitch; Supplier 1: Digi-Key; Supplier Part Number 1: HD6417750SF200-ND; Code_JEITA: P-HQFP208-28x28-0.50; ComponentLink1Description: Manufacturer Link; ComponentLink1URL: http://www.renesas.com/fmwk.jsp?cnt=sh7750s_root.jsp&fp=/products/mpumcu/superh_family/sh7750_series/sh7750s_group/; ComponentLink2Description: Datasheet; ComponentLink2URL: http://documentation.renesas.com/eng/products/mpumcu/rej09b0366_7750hm.pdf; ComponentLink3Description: Packaging Specification; ComponentLink3URL: http://sg.renesas.com/media/products/common_info/package/pdf/ic/code/prqp0208ke_b.pdf
footprint PRQP0208KE-B_N (Shrink QFP, 208-Leads, Body 28x28mm, Pitch 0.5mm, IPC Medium Density)
footprint PRQP0208KE-B_L (Shrink QFP, 208-Leads, Body 28x28mm, Pitch 0.5mm, IPC High Density)
footprint PRQP0208KE-B_M (Shrink QFP, 208-Leads, Body 28x28mm, Pitch 0.5mm, IPC Low Density)
part A pins: 1 ~{RDY} (in) "Bus ready", 2 ~{RESET} (in) "Reset", 3 ~{CS0} (out) "Chip select 0", 4 ~{CS1} (out) "Chip select 1", 5 ~{CS4} (out) "Chip select 4", 6 ~{CS5} (out) "Chip select 5", 7 ~{CS6} (out) "Chip select 6", 8 ~{BS} (out) "Bust start", 11 D47 (in) "Data/port", 12 D32 (in) "Data/port", 15 D46 (in) "Data/port", 16 D33 (in) "Data/port", 17 D45 (in) "Data/port", 18 D34 (in) "Data/port", 19 D44 (in) "Data/port", 20 D35 (in) "Data/port", 23 D43 (in) "Data/port", 24 D36 (in) "Data/port", 25 D42 (in) "Data/port", 26 D37 (in) "Data/port", 27 D41 (in) "Data/port", 28 D38 (in) "Data/port", 29 D40 (in) "Data/port", 30 D39 (in) "Data/port", 33 D15 (in) "Data", 34 D0 (in) "Data", 35 D14 (in) "Data", 36 D1 (in) "Data", 37 D13 (in) "Data", 38 D2 (in) "Data", 41 D12 (in) "Data", 42 D3 (in) "Data", 45 D11 (in) "Data", 46 D4 (in) "Data", 47 D10 (in) "Data", 48 D5 (in) "Data", 49 D9 (in) "Data", 50 D6 (in) "Data", 51 ~{BACK}/~{BSREQ} (out) "Bus acknowledge/bus request", 52 ~{BREQ}/~{BSACK} (in) "Bus request/bus acknowledge", 53 D8 (in) "Data", 54 D7 (in) "Data", 55 CKE (out) "Clock output enable", 58 ~{WE5}/~{CAS5}/DQM5 (out) "D47-D40 select signal", 59 ~{WE4}/~{CAS4}/DQM4 (out) "D39-D32 select signal", 60 ~{WE1}/~{CAS1}/DQM1 (out) "D15-D8 select signal", 61 ~{WE0}/~{CAS0}/DQM0 (out) "D7-D0 select signal", 62 A17 (out) "Address", 63 A16 (out) "Address", 64 A15 (out) "Address", 67 A14 (out) "Address", 68 A13 (out) "Address", 71 A12 (out) "Address", 72 A11 (out) "Address", 73 A10 (out) "Address", 74 A9 (out) "Address", 75 A8 (out) "Address", 76 A7 (out) "Address", 77 CKIO (out) "Clock output", 80 A6 (out) "Address", 81 A5 (out) "Address", 82 A4 (out) "Address", 83 A3 (out) "Address", 84 A2 (out) "Address", 85 DRAK1 (out) "DMAC1 request acknowledge", 86 DRAK0 (out) "DMAC0 request acknowledge", 89 ~{CS3} (out) "Chip select 3", 90 ~{CS2} (out) "Chip select 2", 93 ~{RAS} (out) "RAS", 94 ~{RD}/~{CASS}/~{FRAME} (out) "Read/CAS/FRAME", 95 RD/~{WR} (out) "Read/write", 96 ~{WE2}/~{CAS2}/DQM2/~{ICIORD} (out) "D23-D16 select signal", 97 ~{WE3}/~{CAS3}/DQM3/~{ICIOWR} (out) "D31-D24 select signal", 98 ~{WE6}/~{CAS6}/DQM6 (out) "D55-D48 select signal", 101 ~{WE7}/~{CAS7}/DQM7/~{REG} (out) "D63-D56 select signal", 102 D23 (io) "Data", 103 D24 (io) "Data", 104 D22 (io) "Data", 105 RXD (in) "SCI Data input", 106 ~{DREQ0} (in) "Request from DMAC0", 107 ~{DREQ1} (in) "Request from DMAC1", 108 D25 (io) "Data", 109 D21 (io) "Data", 110 D26 (io) "Data", 111 D20 (io) "Data", 112 D27 (io) "Data", 115 D19 (io) "Data", 116 D28 (io) "Data", 119 D18 (io) "Data", 120 D29 (io) "Data", 121 D17 (io) "Data", 122 D30 (io) "Data", 123 D16 (io) "Data", 124 D31 (io) "Data", 127 D55 (io) "Data", 128 D56 (io) "Data", 129 D54 (io) "Data", 130 D57 (io) "Data", 131 D53 (io) "Data", 132 D58 (io) "Data", 133 D52 (io) "Data", 134 D59 (io) "Data", 137 D51 (io) "Data/port", 138 D60 (io) "Data", 139 D50 (io) "Data/port", 140 D61 (io) "Data", 141 D49 (io) "Data/port", 142 D62 (io) "Data", 145 D48 (io) "Data/port", 146 D63 (io) "Data", 149 MD0/SCK (io) "Mode/SCI clock", 150 MD1/TXD2 (io) "Mode SCIF data output", 151 MD2/RXD2 (in) "Mode/SCIF data input", 152 ~{IRL0} (in) "Interrupt 0", 153 ~{IRL1} (in) "Interrupt 1", 154 ~{IRL2} (in) "Interrupt 2", 155 ~{IRL3} (in) "Interrupt 3", 156 NMI (in) "Nonmaskable interrupt", 157 XTAL2 (out) "RTC crystal resonator pin", 158 EXTAL2 (in) "RTC crystal resonator pin", 161 CA (in), 164 ~{CTS2} (io) "SCIF data control (CTS)", 165 TCLK (io) "RTC/TMU clock", 166 MD8/~{RTS2} (io) "Mode/SCIF data control (RTS)", 167 MD7/TXD (io) "Mode/SCI data output", 168 SCK2/~{MRESET} (in) "SCIF clock/manual reset", 171 A18 (out) "Address", 172 A19 (out) "Address", 173 A20 (out) "Address", 174 A21 (out) "Address", 175 A22 (out) "Address", 176 A23 (out) "Address", 179 A24 (out) "Address", 180 A25 (out) "Address", 181 MD3/~{CE2A} (io) "Mode/PCMCIA-CE", 182 MD4/~{CE2B} (io) "Mode/PCMCIA-CE", 183 MD5/~{RAS2} (io) "Mode/RAS (DRAM)", 184 DACK0 (out) "DMAC0 bus acknowledge", 185 DACK1 (out) "DMAC1 bus acknowledge", 186 A0 (out) "Address", 189 A1 (out) "Address", 190 STATUS0 (out) "Status", 191 STATUS1 (out) "Status", 192 MD6/~{IOIS16} (in) "Mode/IOIS16 (PCMCIA)", 207 XTAL (out) "Crystal resonator", 208 EXTAL (in) "External input clock/crystal resonator"
part B pins: 193 ~{ASEBRK}/BRKACK (io) "Pin break/acknowledge (H-UDI)", 194 TDO (out) "Data out (H-UDI)", 197 TMS (in) "Mode (H-UDI)", 198 TCK (in) "Clock (H-UDI)", 199 TDI (in) "Data in (H-UDI)", 200 ~{TRST} (in) "Reset (H-UDI)"
part C pins: 9 VDDQ (power) "IO VDD (3.3V)", 13 VDD (power) "Internal VDD", 21 VDDQ (power) "IO VDD (3.3V)", 31 VDDQ (power) "IO VDD (3.3V)", 39 VDD (power) "Internal VDD (1.8V)", 43 VDDQ (power) "IO VDD (3.3V)", 56 VDDQ (power) "IO VDD (3.3V)", 65 VDD (power) "Internal VDD", 69 VDDQ (power) "IO VDD (3.3V)", 78 VDDQ (power) "IO VDD (3.3V)", 87 VDDQ (power) "IO VDD (3.3V)", 91 VDD (power) "Internal VDD", 99 VDDQ (power) "IO VDD (3.3V)", 113 VDDQ (power) "IO VDD (3.3V)", 117 VDD (power) "Internal VDD", 125 VDDQ (power) "IO VDD (3.3V)", 135 VDDQ (power) "IO VDD (3.3V)", 143 VDD (power) "Internal VDD", 147 VDDQ (power) "IO VDD (3.3V)", 160 VDD-RTC (power) "RTC VDD (3.3V)", 163 VDDQ (power) "IO VDD (3.3V)", 169 VDD (power) "Internal VDD", 177 VDDQ (power) "IO VDD (3.3V)", 187 VDDQ (power) "IO VDD (3.3V)", 195 VDD (power) "Internal VDD", 201 VDD-PLL2 (power) "PLL2 VDD (3.3V)", 203 VDD-PLL1 (power) "PLL1 VDD (3.3V)", 205 VDD-CPG (power) "CPG VDD (3.3V)"
part D pins: 10 VSSQ (power) "IO GND (0V)", 14 VSS (power) "Internal GND (0V)", 22 VSSQ (power) "IO GND (0V)", 32 VSSQ (power) "IO GND (0V)", 40 VSS (power) "Internal GND (0V)", 44 VSSQ (power) "IO GND (0V)", 57 VSSQ (power) "IO GND (0V)", 66 VSS (power) "Internal GND (0V)", 70 VSSQ (power) "IO GND (0V)", 79 VSSQ (power) "IO GND (0V)", 88 VSSQ (power) "IO GND (0V)", 92 VSS (power) "Internal GND (0V)", 100 VSSQ (power) "IO GND (0V)", 114 VSSQ (power) "IO GND (0V)", 118 VSS (power) "Internal GND (0V)", 126 VSSQ (power) "IO GND (0V)", 136 VSSQ (power) "IO GND (0V)", 144 VSS (power) "Internal GND (0V)", 148 VSSQ (power) "IO GND (0V)", 159 VSS-RTC (power) "RTC GND (0V)", 162 VSS (power) "Internal GND (0V)", 170 VSS (power) "Internal GND (0V)", 178 VSSQ (power) "IO GND (0V)", 188 VSSQ (power) "IO GND (0V)", 196 VSS (power) "Internal GND (0V)", 202 VSS-PLL2 (power) "PLL2 GND (0V)", 204 VSS-PLL1 (power) "PLL1 GND (0V)", 206 VSS-CPG (power) "CPG GND (0V)"

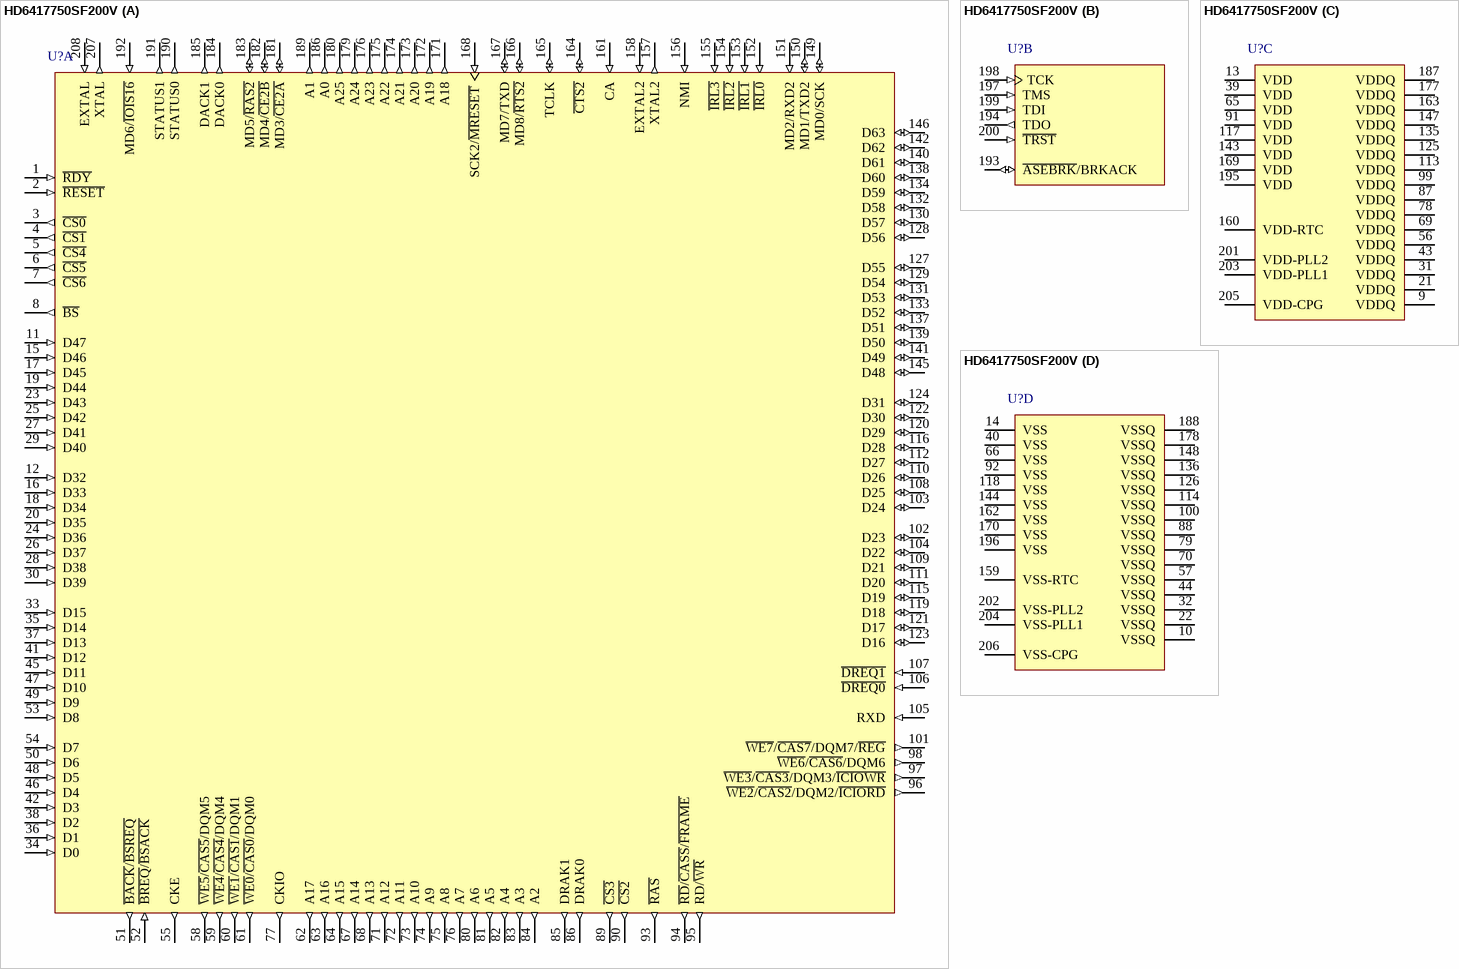
[diagram p81: symbol HD6417750SF200V]

## HD6417750SF200V
designator U?
32-Bit RISC Microcomputer, SH7750 Series, SH-4 core, 1.95V 200MHz, 208-pin QFP (Pb-Free), -20 to 75°C; Published: 28-Aug-2009; DatasheetVersion: Rev.7.00, Oct-2008; PackageVersion: Sep-2005; PackageReference: PRQP0208KE-B; Publisher: Altium Limited; PackageDescription: 208-Pin Plastic Quad Flat Pack, 28 x 28 x 3.2 mm Body, 0.5 mm Pitch; Supplier 1: Digi-Key; Supplier Part Number 1: HD6417750SF200V-ND; Code_JEITA: P-HQFP208-28x28-0.50; ComponentLink1Description: Manufacturer Link; ComponentLink1URL: http://www.renesas.com/fmwk.jsp?cnt=sh7750s_root.jsp&fp=/products/mpumcu/superh_family/sh7750_series/sh7750s_group/; ComponentLink2Description: Datasheet; ComponentLink2URL: http://documentation.renesas.com/eng/products/mpumcu/rej09b0366_7750hm.pdf; ComponentLink3Description: Packaging Specification; ComponentLink3URL: http://sg.renesas.com/media/products/common_info/package/pdf/ic/code/prqp0208ke_b.pdf
footprint PRQP0208KE-B_N (Shrink QFP, 208-Leads, Body 28x28mm, Pitch 0.5mm, IPC Medium Density)
footprint PRQP0208KE-B_L (Shrink QFP, 208-Leads, Body 28x28mm, Pitch 0.5mm, IPC High Density)
footprint PRQP0208KE-B_M (Shrink QFP, 208-Leads, Body 28x28mm, Pitch 0.5mm, IPC Low Density)
part A pins: 1 ~{RDY} (in) "Bus ready", 2 ~{RESET} (in) "Reset", 3 ~{CS0} (out) "Chip select 0", 4 ~{CS1} (out) "Chip select 1", 5 ~{CS4} (out) "Chip select 4", 6 ~{CS5} (out) "Chip select 5", 7 ~{CS6} (out) "Chip select 6", 8 ~{BS} (out) "Bust start", 11 D47 (in) "Data/port", 12 D32 (in) "Data/port", 15 D46 (in) "Data/port", 16 D33 (in) "Data/port", 17 D45 (in) "Data/port", 18 D34 (in) "Data/port", 19 D44 (in) "Data/port", 20 D35 (in) "Data/port", 23 D43 (in) "Data/port", 24 D36 (in) "Data/port", 25 D42 (in) "Data/port", 26 D37 (in) "Data/port", 27 D41 (in) "Data/port", 28 D38 (in) "Data/port", 29 D40 (in) "Data/port", 30 D39 (in) "Data/port", 33 D15 (in) "Data", 34 D0 (in) "Data", 35 D14 (in) "Data", 36 D1 (in) "Data", 37 D13 (in) "Data", 38 D2 (in) "Data", 41 D12 (in) "Data", 42 D3 (in) "Data", 45 D11 (in) "Data", 46 D4 (in) "Data", 47 D10 (in) "Data", 48 D5 (in) "Data", 49 D9 (in) "Data", 50 D6 (in) "Data", 51 ~{BACK}/~{BSREQ} (out) "Bus acknowledge/bus request", 52 ~{BREQ}/~{BSACK} (in) "Bus request/bus acknowledge", 53 D8 (in) "Data", 54 D7 (in) "Data", 55 CKE (out) "Clock output enable", 58 ~{WE5}/~{CAS5}/DQM5 (out) "D47-D40 select signal", 59 ~{WE4}/~{CAS4}/DQM4 (out) "D39-D32 select signal", 60 ~{WE1}/~{CAS1}/DQM1 (out) "D15-D8 select signal", 61 ~{WE0}/~{CAS0}/DQM0 (out) "D7-D0 select signal", 62 A17 (out) "Address", 63 A16 (out) "Address", 64 A15 (out) "Address", 67 A14 (out) "Address", 68 A13 (out) "Address", 71 A12 (out) "Address", 72 A11 (out) "Address", 73 A10 (out) "Address", 74 A9 (out) "Address", 75 A8 (out) "Address", 76 A7 (out) "Address", 77 CKIO (out) "Clock output", 80 A6 (out) "Address", 81 A5 (out) "Address", 82 A4 (out) "Address", 83 A3 (out) "Address", 84 A2 (out) "Address", 85 DRAK1 (out) "DMAC1 request acknowledge", 86 DRAK0 (out) "DMAC0 request acknowledge", 89 ~{CS3} (out) "Chip select 3", 90 ~{CS2} (out) "Chip select 2", 93 ~{RAS} (out) "RAS", 94 ~{RD}/~{CASS}/~{FRAME} (out) "Read/CAS/FRAME", 95 RD/~{WR} (out) "Read/write", 96 ~{WE2}/~{CAS2}/DQM2/~{ICIORD} (out) "D23-D16 select signal", 97 ~{WE3}/~{CAS3}/DQM3/~{ICIOWR} (out) "D31-D24 select signal", 98 ~{WE6}/~{CAS6}/DQM6 (out) "D55-D48 select signal", 101 ~{WE7}/~{CAS7}/DQM7/~{REG} (out) "D63-D56 select signal", 102 D23 (io) "Data", 103 D24 (io) "Data", 104 D22 (io) "Data", 105 RXD (in) "SCI Data input", 106 ~{DREQ0} (in) "Request from DMAC0", 107 ~{DREQ1} (in) "Request from DMAC1", 108 D25 (io) "Data", 109 D21 (io) "Data", 110 D26 (io) "Data", 111 D20 (io) "Data", 112 D27 (io) "Data", 115 D19 (io) "Data", 116 D28 (io) "Data", 119 D18 (io) "Data", 120 D29 (io) "Data", 121 D17 (io) "Data", 122 D30 (io) "Data", 123 D16 (io) "Data", 124 D31 (io) "Data", 127 D55 (io) "Data", 128 D56 (io) "Data", 129 D54 (io) "Data", 130 D57 (io) "Data", 131 D53 (io) "Data", 132 D58 (io) "Data", 133 D52 (io) "Data", 134 D59 (io) "Data", 137 D51 (io) "Data/port", 138 D60 (io) "Data", 139 D50 (io) "Data/port", 140 D61 (io) "Data", 141 D49 (io) "Data/port", 142 D62 (io) "Data", 145 D48 (io) "Data/port", 146 D63 (io) "Data", 149 MD0/SCK (io) "Mode/SCI clock", 150 MD1/TXD2 (io) "Mode SCIF data output", 151 MD2/RXD2 (in) "Mode/SCIF data input", 152 ~{IRL0} (in) "Interrupt 0", 153 ~{IRL1} (in) "Interrupt 1", 154 ~{IRL2} (in) "Interrupt 2", 155 ~{IRL3} (in) "Interrupt 3", 156 NMI (in) "Nonmaskable interrupt", 157 XTAL2 (out) "RTC crystal resonator pin", 158 EXTAL2 (in) "RTC crystal resonator pin", 161 CA (in), 164 ~{CTS2} (io) "SCIF data control (CTS)", 165 TCLK (io) "RTC/TMU clock", 166 MD8/~{RTS2} (io) "Mode/SCIF data control (RTS)", 167 MD7/TXD (io) "Mode/SCI data output", 168 SCK2/~{MRESET} (in) "SCIF clock/manual reset", 171 A18 (out) "Address", 172 A19 (out) "Address", 173 A20 (out) "Address", 174 A21 (out) "Address", 175 A22 (out) "Address", 176 A23 (out) "Address", 179 A24 (out) "Address", 180 A25 (out) "Address", 181 MD3/~{CE2A} (io) "Mode/PCMCIA-CE", 182 MD4/~{CE2B} (io) "Mode/PCMCIA-CE", 183 MD5/~{RAS2} (io) "Mode/RAS (DRAM)", 184 DACK0 (out) "DMAC0 bus acknowledge", 185 DACK1 (out) "DMAC1 bus acknowledge", 186 A0 (out) "Address", 189 A1 (out) "Address", 190 STATUS0 (out) "Status", 191 STATUS1 (out) "Status", 192 MD6/~{IOIS16} (in) "Mode/IOIS16 (PCMCIA)", 207 XTAL (out) "Crystal resonator", 208 EXTAL (in) "External input clock/crystal resonator"
part B pins: 193 ~{ASEBRK}/BRKACK (io) "Pin break/acknowledge (H-UDI)", 194 TDO (out) "Data out (H-UDI)", 197 TMS (in) "Mode (H-UDI)", 198 TCK (in) "Clock (H-UDI)", 199 TDI (in) "Data in (H-UDI)", 200 ~{TRST} (in) "Reset (H-UDI)"
part C pins: 9 VDDQ (power) "IO VDD (3.3V)", 13 VDD (power) "Internal VDD", 21 VDDQ (power) "IO VDD (3.3V)", 31 VDDQ (power) "IO VDD (3.3V)", 39 VDD (power) "Internal VDD (1.8V)", 43 VDDQ (power) "IO VDD (3.3V)", 56 VDDQ (power) "IO VDD (3.3V)", 65 VDD (power) "Internal VDD", 69 VDDQ (power) "IO VDD (3.3V)", 78 VDDQ (power) "IO VDD (3.3V)", 87 VDDQ (power) "IO VDD (3.3V)", 91 VDD (power) "Internal VDD", 99 VDDQ (power) "IO VDD (3.3V)", 113 VDDQ (power) "IO VDD (3.3V)", 117 VDD (power) "Internal VDD", 125 VDDQ (power) "IO VDD (3.3V)", 135 VDDQ (power) "IO VDD (3.3V)", 143 VDD (power) "Internal VDD", 147 VDDQ (power) "IO VDD (3.3V)", 160 VDD-RTC (power) "RTC VDD (3.3V)", 163 VDDQ (power) "IO VDD (3.3V)", 169 VDD (power) "Internal VDD", 177 VDDQ (power) "IO VDD (3.3V)", 187 VDDQ (power) "IO VDD (3.3V)", 195 VDD (power) "Internal VDD", 201 VDD-PLL2 (power) "PLL2 VDD (3.3V)", 203 VDD-PLL1 (power) "PLL1 VDD (3.3V)", 205 VDD-CPG (power) "CPG VDD (3.3V)"
part D pins: 10 VSSQ (power) "IO GND (0V)", 14 VSS (power) "Internal GND (0V)", 22 VSSQ (power) "IO GND (0V)", 32 VSSQ (power) "IO GND (0V)", 40 VSS (power) "Internal GND (0V)", 44 VSSQ (power) "IO GND (0V)", 57 VSSQ (power) "IO GND (0V)", 66 VSS (power) "Internal GND (0V)", 70 VSSQ (power) "IO GND (0V)", 79 VSSQ (power) "IO GND (0V)", 88 VSSQ (power) "IO GND (0V)", 92 VSS (power) "Internal GND (0V)", 100 VSSQ (power) "IO GND (0V)", 114 VSSQ (power) "IO GND (0V)", 118 VSS (power) "Internal GND (0V)", 126 VSSQ (power) "IO GND (0V)", 136 VSSQ (power) "IO GND (0V)", 144 VSS (power) "Internal GND (0V)", 148 VSSQ (power) "IO GND (0V)", 159 VSS-RTC (power) "RTC GND (0V)", 162 VSS (power) "Internal GND (0V)", 170 VSS (power) "Internal GND (0V)", 178 VSSQ (power) "IO GND (0V)", 188 VSSQ (power) "IO GND (0V)", 196 VSS (power) "Internal GND (0V)", 202 VSS-PLL2 (power) "PLL2 GND (0V)", 204 VSS-PLL1 (power) "PLL1 GND (0V)", 206 VSS-CPG (power) "CPG GND (0V)"

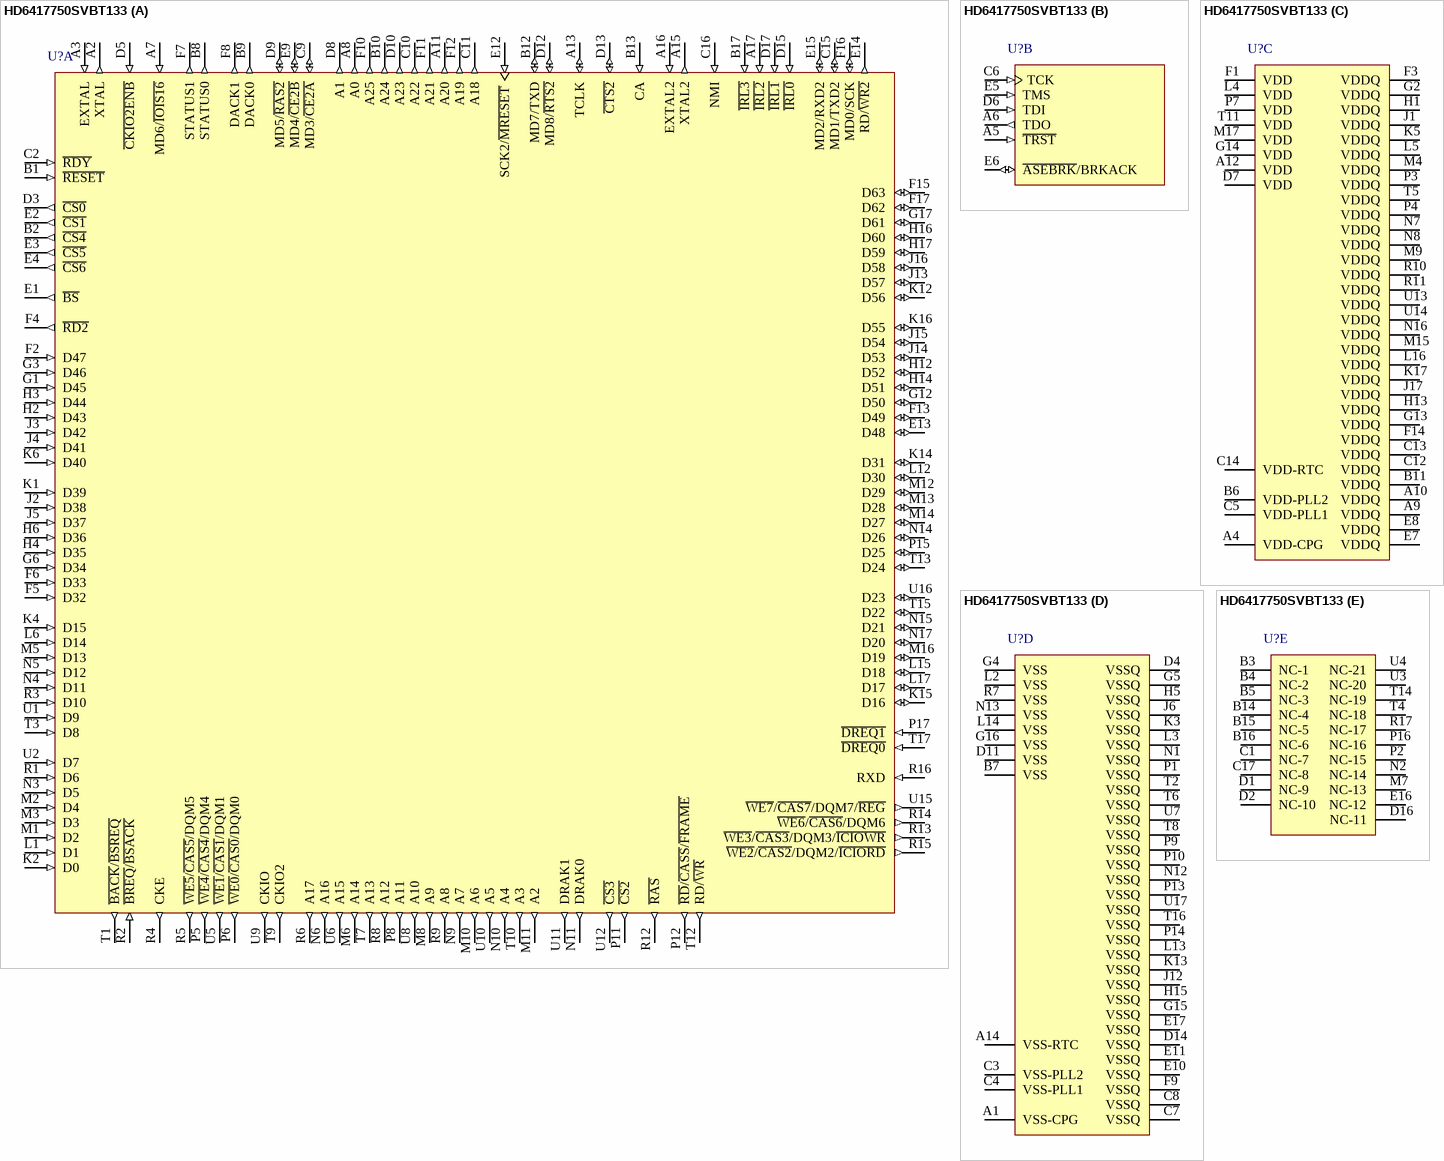
[diagram p82: symbol HD6417750SVBT133]

## HD6417750SVBT133
designator U?
32-Bit RISC Microcomputer, SH7750 Series, SH-4 core, 1.5V 133MHz, 264-pin CSP, -20 to 75°C; Published: 28-Aug-2009; DatasheetVersion: Rev.7.00, Oct-2008; PackageVersion: Sep-2005; PackageReference: PLBG0264GA-A; Publisher: Altium Limited; PackageDescription: 264-Ball Plastic Low Profile Fine-Pitch BGA, 15 x 15 mm Body, 0.8 mm Pitch; Supplier 1: Digi-Key; Supplier Part Number 1: HD6417750SVBT133-ND; Code_JEITA: P-LFBGA264-15x15-0.80; ComponentLink1Description: Manufacturer Link; ComponentLink1URL: http://www.renesas.com/fmwk.jsp?cnt=sh7750s_root.jsp&fp=/products/mpumcu/superh_family/sh7750_series/sh7750s_group/; ComponentLink2Description: Datasheet; ComponentLink2URL: http://documentation.renesas.com/eng/products/mpumcu/rej09b0366_7750hm.pdf; ComponentLink3Description: Packaging Specification; ComponentLink3URL: http://sg.renesas.com/media/products/common_info/package/pdf/ic/code/plbg0264ga_a.pdf
footprint PLBG0264GA-A (BGA, 264-Leads, Body 15x15mm, Pitch 0.8mm)
part A pins: A2 XTAL (out) "Crystal resonator", A3 EXTAL (in) "External clock/crystal resonator", A7 MD6/~{IOIS16} (in) "Mode/IOIS16 (PCMCIA)", A8 A0 (out) "Address", A11 A20 (out) "Address", A13 TCLK (io) "RTC/TMU clock", A15 XTAL2 (out) "RTC crystal resonator pin", A16 EXTAL2 (in) "RTC crystal resonator pin", A17 ~{IRL2} (in) "Interrupt 2", B1 ~{RESET} (in) "Reset", B2 ~{CS4} (out) "Chip select 4", B8 STATUS0 (out) "Status", B9 DACK0 (out) "DMAC0 bus acknowledge", B10 A24 (out) "Address", B12 MD7/TXD (io) "Mode/SCI1 data output", B13 CA (in) "Hardware standby request", B17 ~{IRL3} (in) "Interrupt 3", C2 ~{RDY} (in) "Bus ready", C9 MD3/~{CE2A} (io) "Mode/PCMCIA-CE", C10 A22 (out) "Address", C11 A18 (out) "Address", C15 MD1/TXD2 (io) "Mode/SCIF data output", C16 NMI (in) "Nonmaskable interrupt", D3 ~{CS0} (out) "Chip select 0", D5 ~{CKIO2ENB} (in) "CKIO2, RD2, RD/WR2enable", D8 A1 (out) "Address", D9 MD5/~{RAS2} (io) "Mode/RAS (DRAM)", D10 A23 (out) "Address", D12 MD8/~{RTS2} (io) "Mode/SCIF data control (RTS)", D13 ~{CTS2} (io) "SCIF data control (CTS)", D15 ~{IRL0} (in) "Interrupt 0", D17 ~{IRL1} (in) "Interrupt 1", E1 ~{BS} (out) "Bus start", E2 ~{CS1} (out) "Chip select 1", E3 ~{CS5} (out) "Chip select 5", E4 ~{CS6} (out) "Chip select 6", E9 MD4/~{CE2B} (io) "Mode/PCMCIA-CE", E12 SCK2/~{MRESET} (in) "SCIF clock/manual reset", E13 D48 (io) "Data/port", E14 RD/~{WR2} (out) "RD/WR", E15 MD2/RXD2 (io) "Mode/SCIF data input", F2 D47 (in) "Data/port", F4 ~{RD2} (out) "RD/CASS/FRAME", F5 D32 (in) "Data/port", F6 D33 (in) "Data/port", F7 STATUS1 (out) "Status", F8 DACK1 (out) "DMAC1 bus acknowledge", F10 A25 (out) "Address", F11 A21 (out) "Address", F12 A19 (out) "Address", F13 D49 (io) "Data/port", F15 D63 (io) "Data", F16 MD0/SCK (io) "Mode/SCI1 clock", F17 D62 (io) "Data", G1 D45 (in) "Data/port", G3 D46 (in) "Data/port", G6 D34 (in) "Data/port", G12 D50 (io) "Data/port", G17 D61 (io) "Data", H2 D43 (in) "Data/port", H3 D44 (in) "Data/port", H4 D35 (in) "Data/port", H6 D36 (in) "Data/port", H12 D52 (io) "Data", H14 D51 (io) "Data/port", H16 D60 (io) "Data", H17 D59 (io) "Data", J2 D38 (in) "Data/port", J3 D42 (in) "Data/port", J4 D41 (in) "Data/port", J5 D37 (in) "Data/port", J13 D57 (io) "Data", J14 D53 (io) "Data", J15 D54 (io) "Data", J16 D58 (io) "Data", K1 D39 (in) "Data/port", K2 D0 (in) "Data", K4 D15 (in) "Data", K6 D40 (in) "Data/port", K12 D56 (io) "Data", K14 D31 (io) "Data", K15 D16 (io) "Data", K16 D55 (io) "Data", L1 D1 (in) "Data", L6 D14 (in) "Data", L12 D30 (io) "Data", L15 D18 (io) "Data", L17 D17 (io) "Data", M1 D2 (in) "Data", M2 D4 (in) "Data", M3 D3 (in) "Data", M5 D13 (in) "Data", M6 A14 (out) "Address", M8 A9 (out) "Address", M10 A6 (out) "Address", M11 A2 (out) "Address", M12 D29 (io) "Data", M13 D28 (io) "Data", M14 D27 (io) "Data", M16 D19 (io) "Data", N3 D5 (in) "Data", N4 D11 (in) "Data", N5 D12 (in) "Data", N6 A16 (out) "Address", N9 A7 (out) "Address", N10 A4 (out) "Address", N11 DRAK0 (out) "DMAC0 request acknowledge", N14 D26 (io) "Data", N15 D21 (io) "Data", N17 D20 (io) "Data", P5 ~{WE4}/~{CAS4}/DQM4 (out) "D39-D32 select signal", P6 ~{WE0}/~{CAS0}/DQM0 (out) "D7-D0 select signal", P8 A11 (out) "Address", P11 ~{CS2} (out) "Chip select 2", P12 ~{RD}/~{CASS}/~{FRAME} (out) "Read/CAS/FRAME", P15 D25 (io) "Data", P17 ~{DREQ1} (in) "Request from DMAC1", R1 D6 (in) "Data", R2 ~{BREQ}/~{BSACK} (in) "Bus request/bus acknowledge", R3 D10 (in) "Data", R4 CKE (out) "Clock output enable", R5 ~{WE5}/~{CAS5}/DQM5 (out) "D47-D40 select signal", R6 A17 (out) "Address", R8 A12 (out) "Address", R9 A8 (out) "Address", R12 ~{RAS} (out) "RAS", R13 ~{WE3}/~{CAS3}/DQM3/~{ICIOWR} (out) "D31-D24 select signal", R14 ~{WE6}/~{CAS6}/DQM6 (out) "D55-D48 select signal", R15 ~{WE2}/~{CAS2}/DQM2/~{ICIORD} (out) "D23-D16 select signal", R16 RXD (in) "SCI1 data input", T1 ~{BACK}/~{BSREQ} (out) "Bus acknowledge/bus request", T3 D8 (in) "Data", T7 A13 (out) "Address", T9 CKIO2 (out) "CKIO", T10 A3 (out) "Address", T12 RD/~{WR} (out) "Read/write", T13 D24 (io) "Data", T15 D22 (io) "Data", T17 ~{DREQ0} (in) "Request from DMAC0", U1 D9 (in) "Data", U2 D7 (in) "Data", U5 ~{WE1}/~{CAS1}/DQM1 (out) "D15-D8 select signal", U6 A15 (out) "Address", U8 A10 (out) "Address", U9 CKIO (out) "Clock output", U10 A5 (out) "Address", U11 DRAK1 (out) "DMAC1 request acknowledge", U12 ~{CS3} (out) "Chip select 3", U15 ~{WE7}/~{CAS7}/DQM7/~{REG} (out) "D63-D56 select signal", U16 D23 (io) "Data"
part B pins: A5 ~{TRST} (in) "Reset (H-UDI)", A6 TDO (out) "Data out (H-UDI)", C6 TCK (in) "Clock (H-UDI)", D6 TDI (in) "Data in (H-UDI)", E5 TMS (in) "Mode (H-UDI)", E6 ~{ASEBRK}/BRKACK (io) "Pin break/acknowledge (H-UDI)"
part C pins: A4 VDD-CPG (power) "CPG VDD (3.3V)", A9 VDDQ (power) "IO VDD (3.3V)", A10 VDDQ (power) "IO VDD (3.3V)", A12 VDD (power) "Internal VDD (1.5V)", B6 VDD-PLL2 (power) "PLL2 VDD (3.3V)", B11 VDDQ (power) "IO VDD (3.3V)", C5 VDD-PLL1 (power) "PLL1 VDD (3.3V)", C12 VDDQ (power) "IO VDD (3.3V)", C13 VDDQ (power) "IO VDD (3.3V)", C14 VDD-RTC (power) "RTC VDD (3.3V)", D7 VDD (power) "Internal VDD (1.5V)", E7 VDDQ (power) "IO VDD (3.3V)", E8 VDDQ (power) "IO VDD (3.3V)", F1 VDD (power) "Internal VDD (1.5V)", F3 VDDQ (power) "IO VDD (3.3V)", F14 VDDQ (power) "IO VDD (3.3V)", G2 VDDQ (power) "IO VDD (3.3V)", G13 VDDQ (power) "IO VDD (3.3V)", G14 VDD (power) "Internal VDD (1.5V)", H1 VDDQ (power) "IO VDD (3.3V)", H13 VDDQ (power) "IO VDD (3.3V)", J1 VDDQ (power) "IO VDD (3.3V)", J17 VDDQ (power) "IO VDD (3.3V)", K5 VDDQ (power) "IO VDD (3.3V)", K17 VDDQ (power) "IO VDD (3.3V)", L4 VDD (power) "Internal VDD (1.5V)", L5 VDDQ (power) "IO VDD (3.3V)", L16 VDDQ (power) "IO VDD (3.3V)", M4 VDDQ (power) "IO VDD (3.3V)", M9 VDDQ (power) "IO VDD (3.3V)", M15 VDDQ (power) "IO VDD (3.3V)", M17 VDD (power) "Internal VDD (1.5V)", N7 VDDQ (power) "IO VDD (3.3V)", N8 VDDQ (power) "IO VDD (3.3V)", N16 VDDQ (power) "IO VDD (3.3V)", P3 VDDQ (power) "IO VDD (3.3V)", P4 VDDQ (power) "IO VDD (3.3V)", P7 VDD (power) "Internal VDD (1.5V)", R10 VDDQ (power) "IO VDD (3.3V)", R11 VDDQ (power) "IO VDD (3.3V)", T5 VDDQ (power) "IO VDD (3.3V)", T11 VDD (power) "Internal VDD (1.5V)", U13 VDDQ (power) "IO VDD (3.3V)", U14 VDDQ (power) "IO VDD (3.3V)"
part D pins: A1 VSS-CPG (power) "CPG GND (0V)", A14 VSS-RTC (power) "RTC GND (0V)", B7 VSS (power) "Internal GND (0V)", C3 VSS-PLL2 (power) "PLL2 GND (0V)", C4 VSS-PLL1 (power) "PLL1 GND (0V)", C7 VSSQ (power) "IO GND (0V)", C8 VSSQ (power) "IO GND (0V)", D4 VSSQ (power) "IO GND (0V)", D11 VSS (power) "Internal GND (0V)", D14 VSSQ (power) "IO GND (0V)", E10 VSSQ (power) "IO GND (0V)", E11 VSSQ (power) "IO GND (0V)", E17 VSSQ (power) "IO GND (0V)", F9 VSSQ (power) "IO GND (0V)", G4 VSS (power) "Internal GND (0V)", G5 VSSQ (power) "IO GND (0V)", G15 VSSQ (power) "IO GND (0V)", G16 VSS (power) "Internal GND (0V)", H5 VSSQ (power) "IO GND (0V)", H15 VSSQ (power) "IO GND (0V)", J6 VSSQ (power) "IO GND (0V)", J12 VSSQ (power) "IO GND (0V)", K3 VSSQ (power) "IO GND (0V)", K13 VSSQ (power) "IO GND (0V)", L2 VSS (power) "Internal GND (0V)", L3 VSSQ (power) "IO GND (0V)", L13 VSSQ (power) "IO GND (0V)", L14 VSS (power) "Internal GND (0V)", N1 VSSQ (power) "IO GND (0V)", N12 VSSQ (power) "IO GND (0V)", N13 VSS (power) "Internal GND (0V)", P1 VSSQ (power) "IO GND (0V)", P9 VSSQ (power) "IO GND (0V)", P10 VSSQ (power) "IO GND (0V)", P13 VSSQ (power) "IO GND (0V)", P14 VSSQ (power) "IO GND (0V)", R7 VSS (power) "Internal GND (0V)", T2 VSSQ (power) "IO GND (0V)", T6 VSSQ (power) "IO GND (0V)", T8 VSSQ (power) "IO GND (0V)", T16 VSSQ (power) "IO GND (0V)", U7 VSSQ (power) "IO GND (0V)", U17 VSSQ (power) "IO GND (0V)"
part E pins: B3 NC-1 "Leave open, do not connect", B4 NC-2 "Leave open, do not connect", B5 NC-3 "Leave open, do not connect", B14 NC-4 "Leave open, do not connect", B15 NC-5 "Leave open, do not connect", B16 NC-6 "Leave open, do not connect", C1 NC-7 "Leave open, do not connect", C17 NC-8 "Leave open, do not connect", D1 NC-9 "Leave open, do not connect", D2 NC-10 "Leave open, do not connect", D16 NC-11 "Leave open, do not connect", E16 NC-12 "Leave open, do not connect", M7 NC-13 "Leave open, do not connect", N2 NC-14 "Leave open, do not connect", P2 NC-15 "Leave open, do not connect", P16 NC-16 "Leave open, do not connect", R17 NC-17 "Leave open, do not connect", T4 NC-18 "Leave open, do not connect", T14 NC-19 "Leave open, do not connect", U3 NC-20 "Leave open, do not connect", U4 NC-21 "Leave open, do not connect"

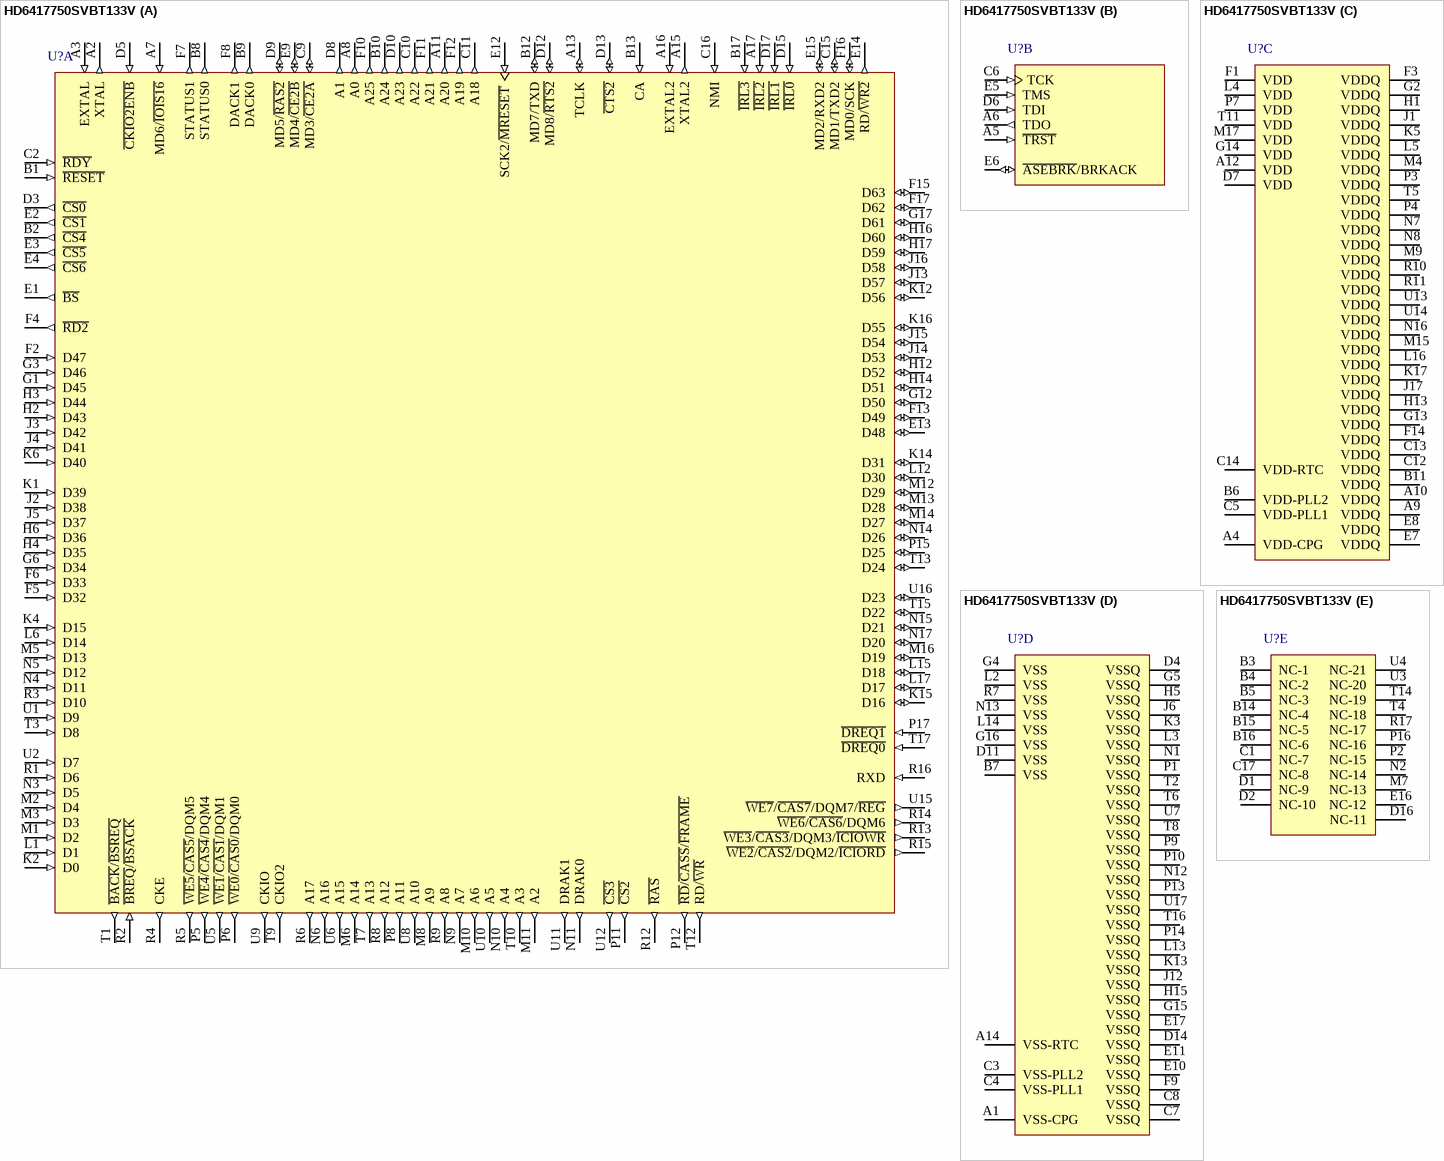
[diagram p83: symbol HD6417750SVBT133V]